# Altium integrated library AMCC PowerPC 440.IntLib: 120 symbols (part 30 of 33)
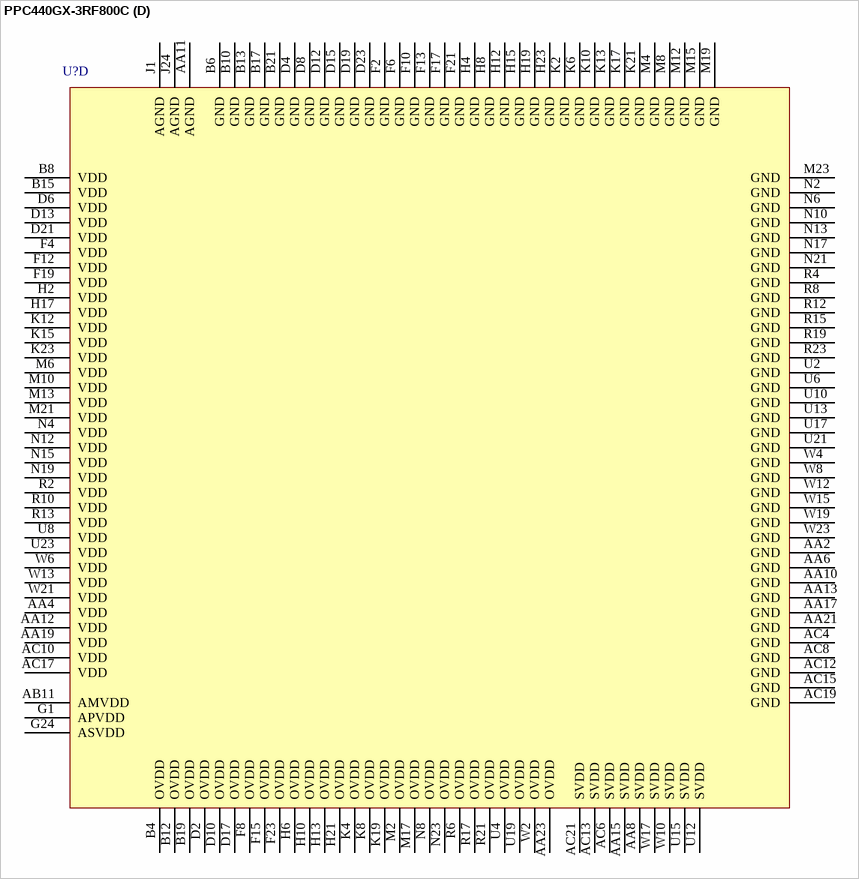
[diagram p428: symbol PPC440GX-3RF800C]

## PPC440GX-3RF800C
designator U?
PowerPC 440GX Embedded Processor, 800MHz, 25mm, 552 Ball CBGA, Reduced Pb, rev F; Note: Pin names with asterisk have Ethernet interface multifunctions. See description field for those functions.; Published: 6-Oct-2005; LatestRevisionDate: 13-Apr-2006; LatestRevisionNote: IPC-7351 Footprint Added.; DatasheetVersion: rev1.10, Apr-2006; PackageVersion: Apr-2006; PackageReference: CBGA552R_37; Publisher: Altium Limited; PackageDescription: 552-Ball Ceramic Ball Grid Array - Reduced Lead; ComponentLink1Description: Manufacturer Link; ComponentLink1URL: http://www.amcc.com/; ComponentLink2Description: Datasheet; ComponentLink2URL: https://www.amcc.com/MyAMCC/retrieveDocument/PowerPC/440GX/PPC440GX_DS2001_v1_10.pdf
footprint CBGA552R_37 (BGA, 552-Leads, Body 25x25mm, Pitch 1mm)
3D model PPC440GX-CBGA552R (552-Ball Ceramic Ball Grid Array - Reduced Lead)
part A pins: A5 DrvrInh2 (in), AA1 MemData48 (io), AA3 MemData49 (io), AA5 DQS8 (io), AA7 DM5 (out), AA9 DM4 (out), AA14 MemData16 (io), AA16 BA0 (out), AA18 DM1 (out), AA20 MemData03 (io), AB2 MemData50 (io), AB3 MemData52 (io), AB4 ECC6 (io), AB5 ~{CAS} (out), AB6 ECC1 (io), AB7 ECC0 (io), AB8 MemData40 (io), AB9 MemData45 (io), AB10 ClkEn1 (out), AB12 MemData29 (io), AB13 DQS3 (io), AB14 DM2 (out), AB15 ~{BankSel0} (out), AB16 MemData11 (io), AB17 MemData15 (io), AB18 MemAddr06 (out), AB19 MemData07 (io), AB20 MemAddr03 (out), AB21 MemData01 (io), AB22 TMS (in), AC3 ECC5 (io), AC5 DM8 (out), AC7 MemData44 (io), AC9 DQS5 (io), AC11 DQS4 (io), AC14 DQS2 (io), AC16 DQS1 (io), AC18 MemData12 (io), AC20 DQS0 (io), AC22 MemData02 (io), AD4 ECC7 (io), AD5 ~{BankSel3} (out), AD6 ECC2 (io), AD7 ~{RA}S (out), AD8 MemData41 (io), AD9 BA1 (out), AD10 MemData39 (io), AD11 ~{BankSel2} (out), AD12 MemData33 (io), AD13 MemData24 (io), AD14 MemData25 (io), AD15 MemData17 (io), AD16 MemAddr05 (out), AD17 ClkEn0 (out), AD18 MemAddr04 (out), AD19 MemData06 (io), AD20 MemAddr01 (out), AD21 MemData00 (io), G22 SysClk (in), L2 RefVEn (in), L18 IRQ03[GPIO03] (io), L20 IRQ01[GPIO01] (io), M5 TestEn (in), M14 IRQ06[GPIO06] (io), M20 IRQ05[GPIO05] (io), N14 IRQ04[GPIO04] (io), N18 IRQ00[GPIO00] (io), N20 IRQ08[GPIO08] (io), N24 ~{TRS}T (in), P10 ~{SysRese}t (io), P12 MemData28 (io), P13 DM3 (out), P18 IRQ07[GPIO07] (io), P20 IRQ02[GPIO02] (io), P22 IRQ09[GPIO09] (io), R11 MemData42 (io), R14 MemData14 (io), T1 DQS7 (io), T2 SysErr (out), T7 MemData61 (io), T8 MemData56 (io), T9 MemVRef2 (in), T10 MemData38 (io), T11 MemData37 (io), T12 MemData35 (io), T13 MemData22 (io), T14 MemVRef1 (in), T15 MemData18 (io), T16 DM0 (out), U1 TmrClk (in), U5 MemData63 (io), U7 MemData57 (io), U9 ECC4 (io), U11 MemData36 (io), U14 MemData21 (io), U16 MemData04 (io), V1 MemData55 (io), V3 DM7 (out), V5 ~{Halt} (in), V6 MemData60 (io), V7 MemData54 (io), V8 ~{MemClkOut}0 (out), V9 MemClkOut0 (out), V10 MemAddr12 (out), V11 MemAddr09 (out), V12 MemData31 (io), V13 MemAddr08 (out), V14 MemData26 (io), V15 MemData19 (io), V16 MemData09 (io), V17 MemData05 (io), V18 IRQ10[GPIO10] (io), V22 TCK (in), W1 MemData58 (io), W3 MemData59 (io), W5 MemData62 (io), W7 ECC3 (io), W9 ClkEn3 (out), W11 MemData32 (io), W14 B~{ankSel1} (out), W16 MemAddr10 (out), W18 MemData08 (io), Y1 MemData51 (io), Y2 MemData53 (io), Y3 DM6 (out), Y4 DQS6 (io), Y6 MemData46 (io), Y7 MemData43 (io), Y8 MemData47 (io), Y9 ClkEn2 (out), Y10 MemData34 (io), Y11 MemAddr11 (out), Y12 MemData30 (io), Y13 MemData27 (io), Y14 MemAddr07 (out), Y15 MemData23 (io), Y16 MemData20 (io), Y17 MemData10 (io), Y18 MemData13 (io), Y19 MemAddr00 (out), Y20 MemAddr02 (out), Y22 TDO (out), Y24 TDI (in)
part B pins: A4 PCIXAD51 (io), A6 PCIXAD58 (io), A7 EMCRxD2* (io) "EMC1RxD0,EMC2RxD,GMCTxD0,GMC0TxD0,TBITxD0,RTBI0TxD0", A8 PCIXAD42 (io), A10 PCIXAD05 (io), A11 ~{PCIXFrame} (io), A14 PCIXM66En (in), A15 PCIXAD09 (io), A17 ~{PCIXPEr}r (io), A18 ~{PCIXSEr}r (io), A20 PCIXAD21 (io), A21 PCIXAD22 (io), B3 PCIXAD46 (io), B5 PCIXAD54 (io), B7 PCIXAD62 (io), B9 PCIXAD01 (io), B16 PCIXAD13 (io), B22 PCIXAD25 (io), C2 PCIXAD41 (io), C3 PCIXC5[~{BE5}] (io), C4 PCIXAD50 (io), C5 EMCTxErr* (io) "EMC1TxEn,GMCRxClk,GMC0RxClk,TBIRxClk0,RTBI0RxClk", C6 PCIXAD57 (io), C8 PCIXC4[~{BE4}] (io), C9 PCIXAD55 (io), C10 PCIXAD04 (io), C12 ~{PCIXTRD}Y (io), C15 PCIXAD10 (io), C16 PCIXAD14 (io), C17 PCIXAD00 (io), C19 PCIXC2[~{BE2}] (io), C21 PCIXAD23 (io), C22 ~{PCIXGnt1}[IRQ12] (io), C23 PCIXAD28 (io), D1 PCIXAD36 (io), D3 PCIXAD45 (io), D5 PCIXAD53 (io), D7 PCIXAD61 (io), D9 ~{PCIXAck64} (io), D16 PCIXAD15 (io), D20 PCIXAD20 (io), D22 PCIXAD30 (io), D24 PCIXAD31 (io), E1 EMCRxD1* (io) "EMC0RxD1,EMC1RxD", E2 PCIXAD40 (io), E3 PCIXClk (in), E4 PCIXAD49 (io), E6 PCIXAD56 (io), E7 PCIXAD60 (io), E8 PCIXAD63 (io), E9 ~{PCIXReq6}4 (io), E10 PCIXAD03 (io), E12 ~{PCIXIRD}Y (io), E13 ~{PCIXDevSel} (io), E15 PCIXAD11 (io), E16 PCIXC1[~{BE1}] (io), E18 PCIXAD16 (io), E19 PCIXAD17 (io), E20 ~{PCIXReq}2 (in), E21 ~{PCIXReq1}[IRQ11] (in), E22 ~{PCIXGnt0} (io), E23 PCIXAD27 (io), E24 ~{PCIXReq}0 (io), F1 PCIXAD35 (io), F3 PCIXAD44 (io), F5 PCIXAD52 (io), F7 PCIXAD59 (io), F9 PCIXC7[~{BE7}] (io), F11 PCIXAD06 (io), F14 PCIXC0[~{BE0}] (io), F16 PCIXParLow (io), F18 PCIXAD18 (io), F20 PCIXC3[~{BE3}] (io), F22 PCIXAD24 (io), F24 PCIXAD29 (io), G2 PCIXAD39 (io), G3 EMCRxD0* (io) "EMC0RxD0,EMC0RxD", G4 PCIXAD48 (io), G5 PCIXAD43 (io), G7 PCIXIDSel (in), G8 PCIX133Cap (out), G9 PCIXC6[~{BE6}] (io), G10 PCIXAD02 (io), G12 PCIXAD07 (io), G14 PCIXAD08 (io), G15 PCIXAD12 (io), G18 PCIXAD19 (io), G21 PCIXAD26 (io), G23 ~{PCIXReq}4 (in), H1 PCIXAD33 (io), H3 PCIXAD32 (io), H5 PCIXAD38 (io), H7 PCIXAD47 (io), H9 EMCRxD3* (io) "EMC1RxD1,EMC3RxDGMCTxD1,GMC0TxD1,TBITxD1,RTBI0TxD1", J2 EMCRxClk* (io) "GMCTxD5,GMC1TxD1,TBITxD5,RTBI1TxD1", J3 EMCTxD3* (out) "EMC1TxD1,EMC3TxD,GMCTxD3,GMC0TxD3,TBITxD3,RTBI0TxD3", J4 EMCTxD2* (out) "EMC1TxD0,EMC2TxD,GMCTxD2,GMC0TxD2,TBITxD2,RTBI0TxD2", J5 PCIXAD37 (io), J6 EMCTxClk* (in) "EMCRefClk", J7 EMCCD* (io) "EMC1RxErr,GMCGTxClk,GMC0TxClk,TBITxClk,RTBI0TxClk", J8 EMCMDClk (out), K1 EMCRxDV* (io) "EMC1CrSDV,GMCTxD4,GMC1TxD0,TBITxD4,RTBI1TxD0", K3 EMCRxErr* (io) "EMC0RxErr,GMCTxD6,GMC1TxD2,TBITxD6,RTBI1TxD2", K5 EMCTxD1* (out) "EMC0TxD1,EMC1TxD", K7 EMCCrS (io), L1 GMCRefClk (in), L4 PCIXParHigh (io), L5 EMCMDIO (io), L6 EMCTxEn* (io) "EMC0TxEn,EMCSync", L7 GMCTxEr* (out) "GMC1TxCtl,TBITxD9,RTBI1TxD4", L8 PCIXAD34 (io), L9 EMCTxD0* (out) "EMC0TxD0,EMC0TxD", L12 ~{PCIXSto}p (io), L23 PCIXCap (in), M7 ~{PCIXIN}T (out), M18 ~{PCIXGnt}3 (out), M24 ~{PCIXRese}t (out), N9 TrcES2[GPIO23] (io), N16 TrcBS0[GPIO18][IRQ13] (io), N22 ~{PCIXGnt}2 (out), P3 TrcTS1[GPIO27]* (io) "[GMCCD,GMC1RxClk,RTBI1RxClk]", P4 GMCRxEr* (in) "GMC1RxCtl,TBIRxD9,RTBI1RxD4", P8 TrcES3[GPIO24] (io), P9 TrcTS3[GPIO29]* (io) "[GMCRxD5,GMC1RxD1,TBIRxD5,RTBI1RxD1]", P14 GPIO11* (io) "[GMCTxClk,TBIRxClk1]", P17 TrcBS1[GPIO19][IRQ14] (io), P19 ~{PCIXGnt}5 (out), P21 TrcTS6[PerErr] (io), P23 TrcES1[GPIO22][IRQ17] (io), R1 TrcTS6* (io) "[GMCCrS,GMC1TxClk,RTBI1TxClk]", R5 TrcClk (out), R7 TrcTS2[GPIO28]* (io) "[GMCRxD4,GMC1RxD0,TBIRxD4,RTBI1RxD0]", R9 TrcTS4[GPIO30]* (io) "[GMCRxD6,GMC1RxD2,TBIRxD6,RTBI1RxD2]", R18 ~{PCIXReq}5 (in), R20 ~{PCIXReq}3 (in), R22 ~{PCIXGnt}4 (out), T4 TrcTS0[GPIO26] (io), T5 TrcES4[GPIO25] (io), T6 TrcTS5[GPIO31]* (io) "[GMCRxD7,GMC1RxD3,TBIRxD7,RTBI1RxD3]", T20 TrcBS2[GPIO20][IRQ15] (io), T21 TrcES0[GPIO21][IRQ16] (io)
part C pins: A9 UARTSerClk (in), A12 PerAddr03 (io), A13 PerAddr12 (io), A16 PerAddr11 (io), A19 PerAddr04 (io), AA22 ~{ExtAck}[TrcTS2] (io), AA24 BusReq[TrcTS1] (io), AB23 ~{ExtReq}[TrcTS3] (io), B11 PerAddr02 (io), B14 PerAddr13 (io), B18 ~{UART0_DT}R (out), B20 PerAddr16 (io), C7 ~{PerBLas}t (io), C11 PerAddr01 (io), C13 ~{UART0_CT}S (in), C14 PerAddr14 (io), C18 UART1_Rx[GPIO12] (io), C20 PerAddr10 (io), D11 PerAddr00 (io), D14 PerAddr15 (io), D18 PerAddr05 (io), E5 ~{UART1_RT}S/~{DT}R[GPIO15] (io), E11 PerAddr06 (io), E14 PerAddr09 (io), E17 ~{PerCS}0 (out), G6 ~{UART1_DS}R/~{CTS}[GPIO14] (io), G11 IIC0SClk (io), G13 IIC0SDA (io), G16 ~{UART0_RT}S (out), G17 UART0_Rx (in), G19 PerData04 (io), G20 PerData03 (io), H11 IIC1SClk[GPIO16] (io), H14 IIC1SDA[GPIO17] (io), H16 ~{UART0_R}I (in), H18 PerData05 (io), H20 PerData02 (io), H22 PerData01 (io), H24 PerData00 (io), J9 PerData19 (io), J10 PerData18 (io), J11 PerData17 (io), J12 PerData16 (io), J13 PerData15 (io), J14 PerData14 (io), J15 PerData13 (io), J16 UART1_Tx[GPIO13] (io), J17 PerData12 (io), J18 PerData11 (io), J19 PerData10 (io), J20 PerData09 (io), J21 PerData08 (io), J22 PerData07 (io), J23 PerData06 (io), K9 PerData28 (io), K11 PerData27 (io), K14 PerData26 (io), K16 PerData25 (io), K18 PerData24 (io), K20 PerData23 (io), K22 PerData22 (io), K24 PerData21 (io), L3 ~{PerCS}4 (out), L10 ~{PerCS}1 (out), L11 UART0_Tx (out), L13 ~{PerCS}6 (out), L14 PerData20 (io), L15 PerAddr17 (io), L16 PerData31 (io), L17 PerData30 (io), L19 PerData29 (io), L21 PerAddr18 (io), L22 PerAddr19 (io), L24 PerAddr22 (io), M1 PerAddr21 (io), M3 PerAddr07 (io), M9 PerOE (out), M11 DMAReq1 (in), M16 EOT3/TC3* (io) "[GMCRxD3,GMC0RxD3,TBIRxD3,RTBI0RxD3]", M22 PerAddr20 (io), N1 PerAddr08 (io), N3 PerAddr28 (io), N5 DMAAck0 (out), N7 PerReady[RcvrInh] (in), N11 DMAReq2* (in) "[GMCRxDV,GMC0RxCtl,TBIRxD8,RTBI0RxD4]", P1 DMAReq3* (in) "[GMCTxEn,GMC0TxCtl,TBITxD8,RTBI0TxD4]", P2 ~{PerW}E (out), P5 PerR/~{W} (io), P6 DMAAck2* (out) "[GMCRxD0,GMC0RxD0,TBIRxD0,RTBI0RxD0]", P7 DMAAck1 (out), P11 DMAAck3* (out) "[GMCRxD1,GMC0RxD1,TBIRxD1,RTBI0RxD1]", P15 EOT1/TC1 (io), P16 EOT2/TC2* (io) "[GMCRxD2,GMC0RxD2,TBIRxD2,RTBI0RxD2]", P24 PerAddr23 (io), R3 DMAReq0 (in), R16 EOT0/TC0 (io), R24 PerAddr25 (io), T3 ~{PerCS}5 (out), T17 ~{ExtReset} (out), T18 ~{PerWBE}0 (io), T19 PerAddr24 (io), T22 PerPar1 (io), T23 PerPar0 (io), T24 ~{PerCS}3 (out), U3 ~{PerCS}7 (out), U18 PerClk (out), U20 PerPar3 (io), U22 PerAddr26 (io), U24 PerAddr27 (io), V2 ~{UART0_DS}R (in), V4 ~{PerCS}2 (out), V19 ~{PerWBE}1 (io), V20 PerAddr29 (io), V21 PerAddr31 (io), V23 PerAddr30 (io), V24 ~{UART0_DC}D (in), W20 PerPar2 (io), W22 ~{PerWBE}2 (io), W24 ~{PerWBE}3 (io), Y5 ~{WE} (out), Y21 HoldAck[TrcTS4] (io), Y23 HoldReq[TrcTS5] (io)
part D pins: AA2 GND (power), AA4 VDD (power), AA6 GND (power), AA8 SVDD (power), AA10 GND (power), AA11 AGND (power), AA12 VDD (power), AA13 GND (power), AA15 SVDD (power), AA17 GND (power), AA19 VDD (power), AA21 GND (power), AA23 OVDD (power), AB11 AMVDD (power), AC4 GND (power), AC6 SVDD (power), AC8 GND (power), AC10 VDD (power), AC12 GND (power), AC13 SVDD (power), AC15 GND (power), AC17 VDD (power), AC19 GND (power), AC21 SVDD (power), B4 OVDD (power), B6 GND (power), B8 VDD (power), B10 GND (power), B12 OVDD (power), B13 GND (power), B15 VDD (power), B17 GND (power), B19 OVDD (power), B21 GND (power), D2 OVDD (power), D4 GND (power), D6 VDD (power), D8 GND (power), D10 OVDD (power), D12 GND (power), D13 VDD (power), D15 GND (power), D17 OVDD (power), D19 GND (power), D21 VDD (power), D23 GND (power), F2 GND (power), F4 VDD (power), F6 GND (power), F8 OVDD (power), F10 GND (power), F12 VDD (power), F13 GND (power), F15 OVDD (power), F17 GND (power), F19 VDD (power), F21 GND (power), F23 OVDD (power), G1 APVDD (power), G24 ASVDD (power), H2 VDD (power), H4 GND (power), H6 OVDD (power), H8 GND (power), H10 OVDD (power), H12 GND (power), H13 OVDD (power), H15 GND (power), H17 VDD (power), H19 GND (power), H21 OVDD (power), H23 GND (power), J1 AGND (power), J24 AGND (power), K2 GND (power), K4 OVDD (power), K6 GND (power), K8 OVDD (power), K10 GND (power), K12 VDD (power), K13 GND (power), K15 VDD (power), K17 GND (power), K19 OVDD (power), K21 GND (power), K23 VDD (power), M2 OVDD (power), M4 GND (power), M6 VDD (power), M8 GND (power), M10 VDD (power), M12 GND (power), M13 VDD (power), M15 GND (power), M17 OVDD (power), M19 GND (power), M21 VDD (power), M23 GND (power), N2 GND (power), N4 VDD (power), N6 GND (power), N8 OVDD (power), N10 GND (power), N12 VDD (power), N13 GND (power), N15 VDD (power), N17 GND (power), N19 VDD (power), N21 GND (power), N23 OVDD (power), R2 VDD (power), R4 GND (power), R6 OVDD (power), R8 GND (power), R10 VDD (power), R12 GND (power), R13 VDD (power), R15 GND (power), R17 OVDD (power), R19 GND (power), R21 OVDD (power), R23 GND (power), U2 GND (power), U4 OVDD (power), U6 GND (power), U8 VDD (power), U10 GND (power), U12 SVDD (power), U13 GND (power), U15 SVDD (power), U17 GND (power), U19 OVDD (power), U21 GND (power), U23 VDD (power), W2 OVDD (power), W4 GND (power), W6 VDD (power), W8 GND (power), W10 SVDD (power), W12 GND (power), W13 VDD (power), W15 GND (power), W17 SVDD (power), W19 GND (power), W21 VDD (power), W23 GND (power)

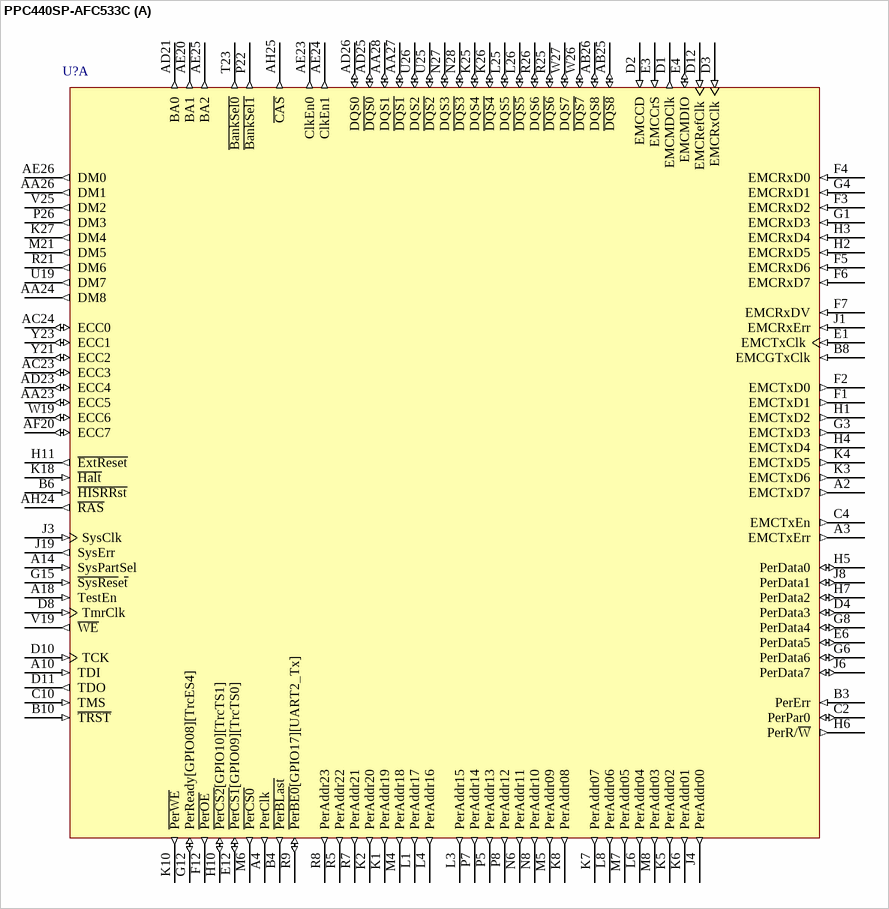
[diagram p364: symbol PPC440SP-AFC533C]

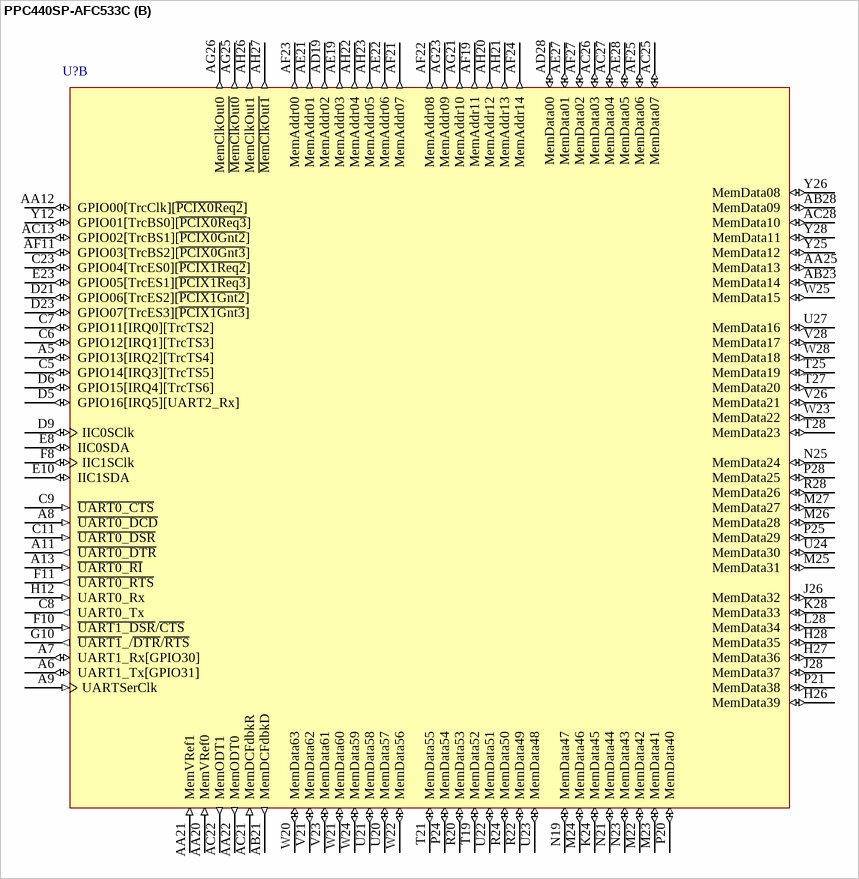
[diagram p365: symbol PPC440SP-AFC533C]

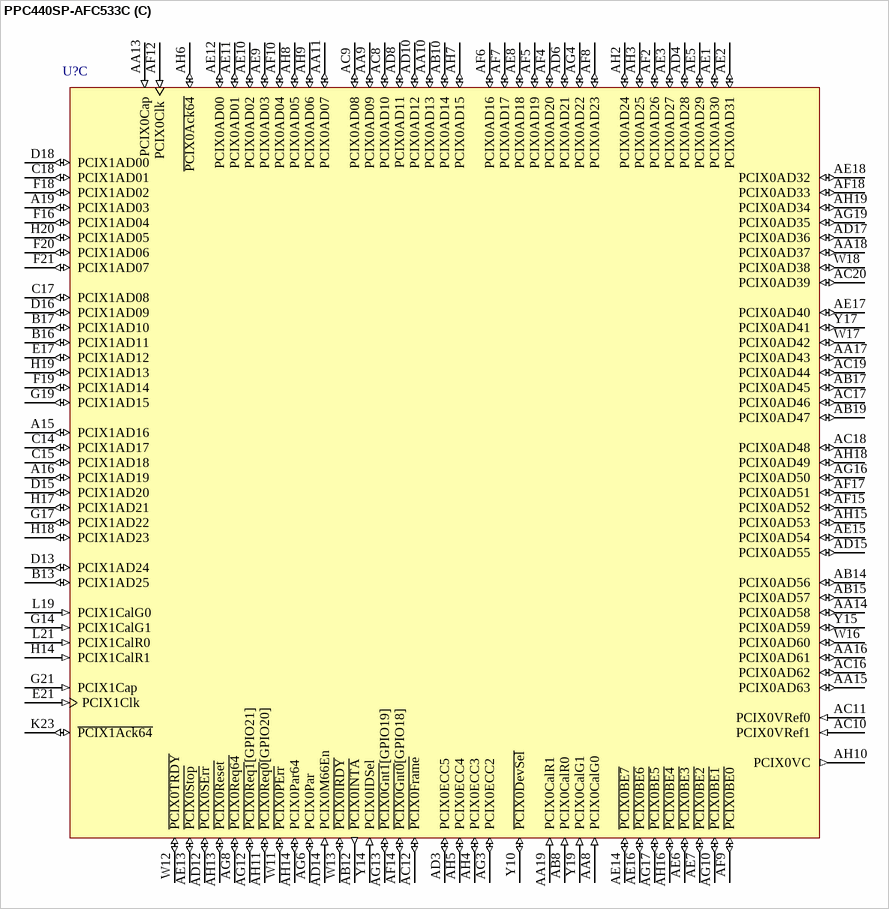
[diagram p366: symbol PPC440SP-AFC533C]

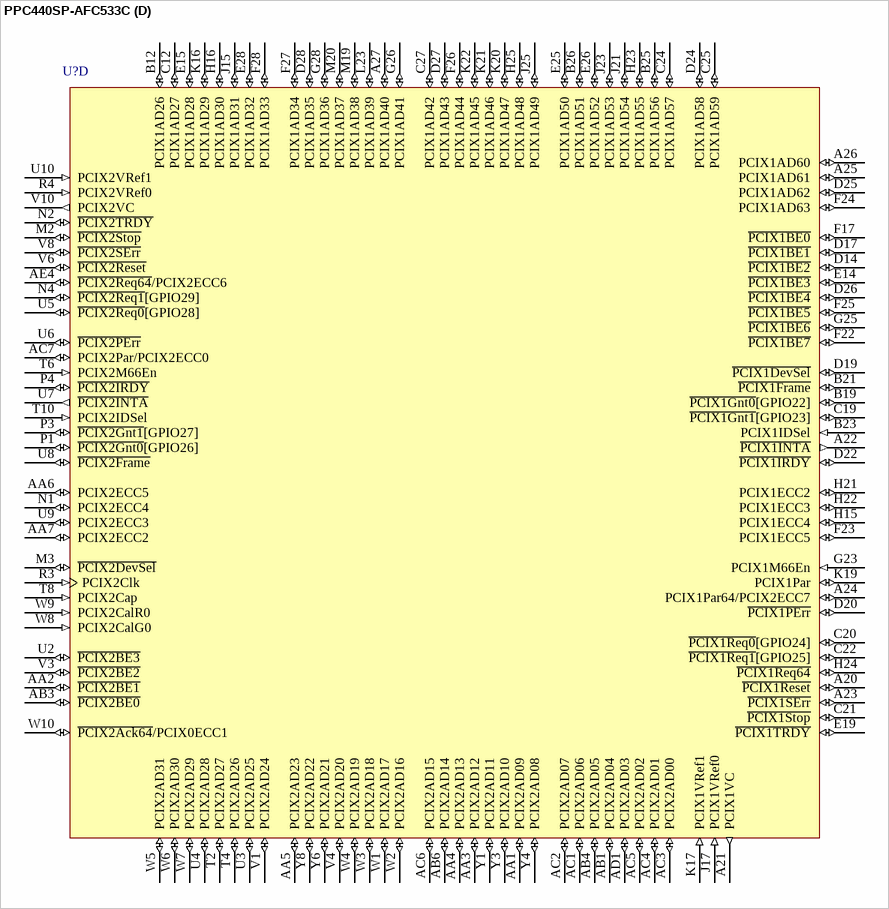
[diagram p367: symbol PPC440SP-AFC533C]

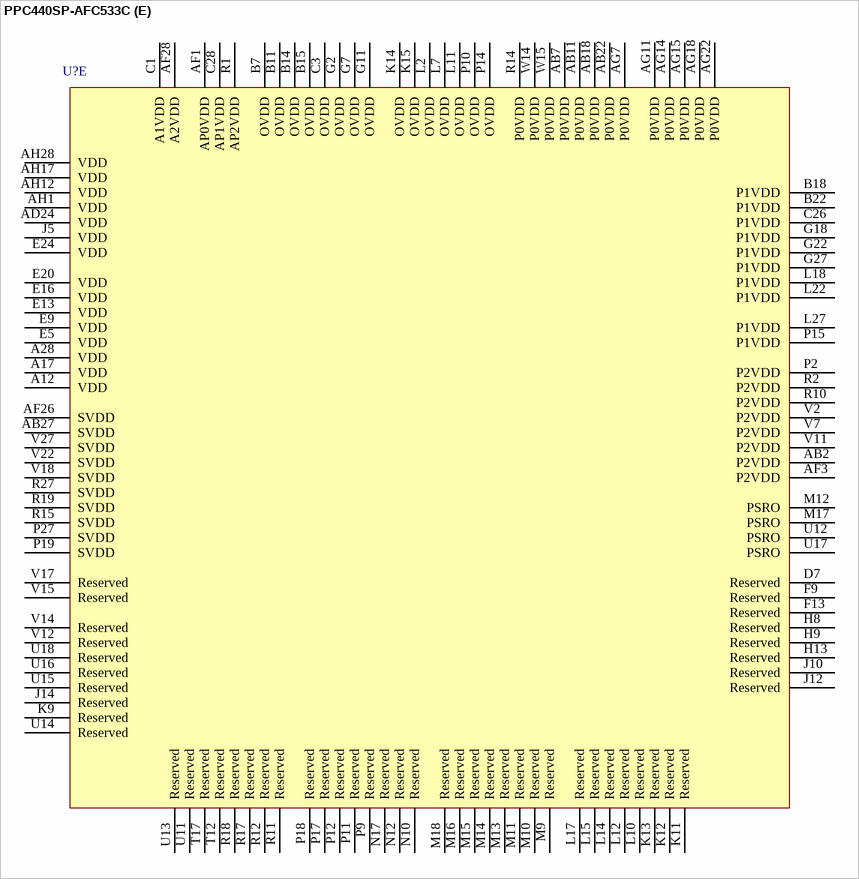
[diagram p368: symbol PPC440SP-AFC533C]

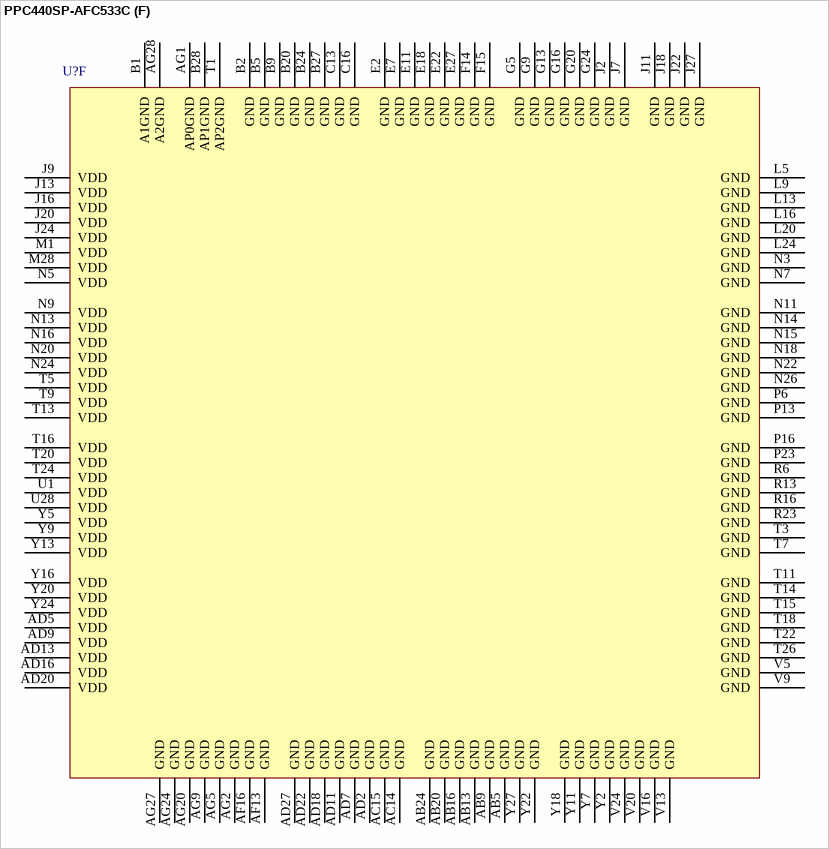
[diagram p369: symbol PPC440SP-AFC533C]

## PPC440SP-AFC533C
designator U?
PowerPC 440SP Embedded Processor, 533MHz, 29mm, 783 Ball FC-PBGA, rev C; Published: 2-Mar-2006; LatestRevisionDate: 13-Apr-2006; LatestRevisionNote: IPC-7351 Footprint Added.; DatasheetVersion: rev1.18, May-2006; PackageVersion: Nov-2005; PackageReference: FC-PBGA783; Publisher: Altium Limited; PackageDescription: 783-Ball Flip Chip Plastic Ball Grid Array; ComponentLink1Description: Manufacturer Link; ComponentLink1URL: http://www.amcc.com/; ComponentLink2Description: Datasheet; ComponentLink2URL: https://www.amcc.com/MyAMCC/retrieveDocument/PowerPC/440SP/PPC440SP_DS2013_v1_18.pdf
footprint FC-PBGA783 (BGA, 783-Leads, Body 29x29mm, Pitch 1mm)
3D model PPC440SP-FC-PBGA783 (783-Ball Flip Chip Plastic Ball Grid Array)
part A pins: A2 EMCTxD7 (out), A3 EMCTxErr (out), A4 PerClk (out), A10 TDI (in), A14 SysPartSel (in), A18 TestEn (in), AA23 ECC5 (io), AA24 DM8 (out), AA26 DM1 (out), AA27 ~{DQS1} (io), AA28 DQS1 (io), AB25 ~{DQS8} (io), AB26 DQS8 (io), AC23 ECC3 (io), AC24 ECC0 (io), AD21 BA0 (out), AD23 ECC4 (io), AD25 ~{DQS0} (io), AD26 DQS0 (io), AE20 BA1 (out), AE23 ClkEn0 (out), AE24 ClkEn1 (out), AE25 BA2 (out), AE26 DM0 (out), AF20 ECC7 (io), AH24 ~{RAS} (out), AH25 ~{CAS} (out), B3 PerErr (in), B4 ~{PerBLast} (out), B6 ~{HISRRst} (in), B8 EMCGTxClk (in), B10 ~{TRST} (in), C2 PerPar0 (io), C4 EMCTxEn (out), C10 TMS (in), D1 EMCMDClk (out), D2 EMCCD (in), D3 EMCRxClk (in), D4 PerData3 (io), D8 TmrClk (in), D10 TCK (in), D11 TDO (out), D12 EMCRefClk (in), E1 EMCTxClk (in), E3 EMCCrS (in), E4 EMCMDIO (io), E6 PerData5 (io), E12 ~{PerCS1}[GPIO09][TrcTS0] (io), F1 EMCTxD1 (out), F2 EMCTxD0 (out), F3 EMCRxD2 (in), F4 EMCRxD0 (in), F5 EMCRxD6 (in), F6 EMCRxD7 (in), F7 EMCRxDV (in), F12 ~{PerOE} (out), G1 EMCRxD3 (in), G3 EMCTxD3 (out), G4 EMCRxD1 (in), G6 PerData6 (io), G8 PerData4 (io), G12 PerReady[GPIO08][TrcES4] (io), G15 ~{SysRes}e~{t} (in), H1 EMCTxD2 (out), H2 EMCRxD5 (in), H3 EMCRxD4 (in), H4 EMCTxD4 (out), H5 PerData0 (io), H6 PerR/~{W} (out), H7 PerData2 (io), H10 ~{PerCS2}[GPIO10][TrcTS1] (io), H11 ~{ExtReset} (out), J1 EMCRxErr (in), J3 SysClk (in), J4 PerAddr00 (out), J6 PerData7 (io), J8 PerData1 (io), J19 SysErr (out), K1 PerAddr19 (out), K2 PerAddr20 (out), K3 EMCTxD6 (out), K4 EMCTxD5 (out), K5 PerAddr02 (out), K6 PerAddr01 (out), K7 PerAddr07 (out), K8 PerAddr08 (out), K10 ~{PerWE} (out), K18 ~{Halt} (in), K25 DQS4 (io), K26 ~{DQS4} (io), K27 DM4 (out), L1 PerAddr17 (out), L3 PerAddr15 (out), L4 PerAddr16 (out), L6 PerAddr04 (out), L8 PerAddr06 (out), L25 DQS5 (io), L26 ~{DQS5} (io), M4 PerAddr18 (out), M5 PerAddr09 (out), M6 ~{PerCS0} (out), M7 PerAddr05 (out), M8 PerAddr03 (out), M21 DM5 (out), N6 PerAddr11 (out), N8 PerAddr10 (out), N27 DQS3 (io), N28 ~{DQS3} (io), P5 PerAddr13 (out), P7 PerAddr14 (out), P8 PerAddr12 (out), P22 ~{BankSel1} (out), P26 DM3 (out), R5 PerAddr22 (out), R7 PerAddr21 (out), R8 PerAddr23 (out), R9 ~{PerBE0}[GPIO17][UART2_Tx] (io), R21 DM6 (out), R25 ~{DQS6} (io), R26 DQS6 (io), T23 ~{BankSel0} (out), U19 DM7 (out), U25 ~{DQS2} (io), U26 DQS2 (io), V19 ~{WE} (out), V25 DM2 (out), W19 ECC6 (io), W26 ~{DQS7} (io), W27 DQS7 (io), Y21 ECC2 (io), Y23 ECC1 (io)
part B pins: A5 GPIO13[IRQ2][TrcTS4] (io), A6 UART1_Tx[GPIO31] (io), A7 UART1_Rx[GPIO30] (io), A8 ~{UART0_DCD} (in), A9 UARTSerClk (in), A11 ~{UART0_DTR} (out), A13 ~{UART0_RI} (in), AA12 GPIO00[TrcClk][~{PCIX0Req2}] (io), AA20 MemVRef0 (in), AA21 MemVRef1 (in), AA22 MemODT0 (out), AA25 MemData13 (io), AB21 MemDCFdbkD (out), AB23 MemData14 (io), AB28 MemData09 (io), AC13 GPIO02[TrcBS1][~{PCIX0Gnt2}] (io), AC21 MemDCFdbkR (in), AC22 MemODT1 (out), AC25 MemData07 (io), AC26 MemData03 (io), AC27 MemData04 (io), AC28 MemData10 (io), AD19 MemAddr02 (out), AD28 MemData00 (io), AE19 MemAddr03 (out), AE21 MemAddr01 (out), AE22 MemAddr06 (out), AE27 MemData01 (io), AE28 MemData05 (io), AF11 GPIO03[TrcBS2][~{PCIX0Gnt3}] (io), AF19 MemAddr11 (out), AF21 MemAddr07 (out), AF22 MemAddr08 (out), AF23 MemAddr00 (out), AF24 MemAddr14 (out), AF25 MemData06 (io), AF27 MemData02 (io), AG21 MemAddr10 (out), AG23 MemAddr09 (out), AG25 ~{MemClkOut0} (out), AG26 MemClkOut0 (out), AH20 MemAddr12 (out), AH21 MemAddr13 (out), AH22 MemAddr04 (out), AH23 MemAddr05 (out), AH26 MemClkOut1 (out), AH27 ~{MemClkOut1} (out), C5 GPIO14[IRQ3][TrcTS5] (io), C6 GPIO12[IRQ1][TrcTS3] (io), C7 GPIO11[IRQ0][TrcTS2] (io), C8 UART0_Tx (out), C9 ~{UART0_CTS} (in), C11 ~{UART0_DSR} (in), C23 GPIO04[TrcES0][~{PCIX1Req2}] (io), D5 GPIO16[IRQ5][UART2_Rx] (io), D6 GPIO15[IRQ4][TrcTS6] (io), D9 IIC0SClk (io), D21 GPIO06[TrcES2][~{PCIX1Gnt2}] (io), D23 GPIO07[TrcES3][~{PCIX1Gnt3}] (io), E8 IIC0SDA (io), E10 IIC1SDA (io), E23 GPIO05[TrcES1][~{PCIX1Req3}] (io), F8 IIC1SClk (io), F10 ~{UART1_DSR}/~{CTS} (in), F11 ~{UART0_RTS} (out), G10 ~{UART1}_/~{DTR}/~{RTS} (out), H12 UART0_Rx (in), H26 MemData39 (io), H27 MemData36 (io), H28 MemData35 (io), J26 MemData32 (io), J28 MemData37 (io), K24 MemData45 (io), K28 MemData33 (io), L28 MemData34 (io), M22 MemData42 (io), M23 MemData41 (io), M24 MemData46 (io), M25 MemData31 (io), M26 MemData28 (io), M27 MemData27 (io), N19 MemData47 (io), N21 MemData44 (io), N23 MemData43 (io), N25 MemData24 (io), P20 MemData40 (io), P21 MemData38 (io), P24 MemData54 (io), P25 MemData29 (io), P28 MemData25 (io), R20 MemData53 (io), R22 MemData49 (io), R24 MemData50 (io), R28 MemData26 (io), T19 MemData52 (io), T21 MemData55 (io), T25 MemData19 (io), T27 MemData20 (io), T28 MemData23 (io), U20 MemData57 (io), U21 MemData58 (io), U22 MemData51 (io), U23 MemData48 (io), U24 MemData30 (io), U27 MemData16 (io), V21 MemData62 (io), V23 MemData61 (io), V26 MemData21 (io), V28 MemData17 (io), W20 MemData63 (io), W21 MemData60 (io), W22 MemData56 (io), W23 MemData22 (io), W24 MemData59 (io), W25 MemData15 (io), W28 MemData18 (io), Y12 GPIO01[TrcBS0][~{PCIX0Req3}] (io), Y25 MemData12 (io), Y26 MemData08 (io), Y28 MemData11 (io)
part C pins: A15 PCIX1AD16 (io), A16 PCIX1AD19 (io), A19 PCIX1AD03 (io), AA8 PCIX0CalG0 (in), AA9 PCIX0AD09 (io), AA10 PCIX0AD13 (io), AA11 PCIX0AD07 (io), AA13 PCIX0Cap (in), AA14 PCIX0AD58 (io), AA15 PCIX0AD63 (io), AA16 PCIX0AD61 (io), AA17 PCIX0AD43 (io), AA18 PCIX0AD37 (io), AA19 PCIX0CalR1 (in), AB8 PCIX0CalR0 (in), AB10 PCIX0AD14 (io), AB12 ~{PCIX0INTA} (out), AB14 PCIX0AD56 (io), AB15 PCIX0AD57 (io), AB17 PCIX0AD45 (io), AB19 PCIX0AD47 (io), AC8 PCIX0AD10 (io), AC9 PCIX0AD08 (io), AC10 PCIX0VRef1 (in), AC11 PCIX0VRef0 (in), AC12 ~{PCIX0Frame} (io), AC16 PCIX0AD62 (io), AC17 PCIX0AD46 (io), AC18 PCIX0AD48 (io), AC19 PCIX0AD44 (io), AC20 PCIX0AD39 (io), AD3 PCIX0ECC5 (io), AD4 PCIX0AD28 (io), AD6 PCIX0AD21 (io), AD8 PCIX0AD11 (io), AD10 PCIX0AD12 (io), AD12 ~{PCIX0SErr} (io), AD14 PCIX0M66En (in), AD15 PCIX0AD55 (io), AD17 PCIX0AD36 (io), AE1 PCIX0AD30 (io), AE2 PCIX0AD31 (io), AE3 PCIX0AD27 (io), AE5 PCIX0AD29 (io), AE6 ~{PCIX0BE3} (io), AE7 ~{PCIX0BE2} (io), AE8 PCIX0AD18 (io), AE9 PCIX0AD03 (io), AE10 PCIX0AD02 (io), AE11 PCIX0AD01 (io), AE12 PCIX0AD00 (io), AE13 ~{PCIX0Stop} (io), AE14 ~{PCIX0BE7} (io), AE15 PCIX0AD54 (io), AE16 ~{PCIX0BE6} (io), AE17 PCIX0AD40 (io), AE18 PCIX0AD32 (io), AF2 PCIX0AD26 (io), AF4 PCIX0AD20 (io), AF5 PCIX0AD19 (io), AF6 PCIX0AD16 (io), AF7 PCIX0AD17 (io), AF8 PCIX0AD23 (io), AF9 ~{PCIX0BE0} (io), AF10 PCIX0AD04 (io), AF12 PCIX0Clk (in), AF14 ~{PCIX0Gnt0}[GPIO18] (io), AF15 PCIX0AD52 (io), AF17 PCIX0AD51 (io), AF18 PCIX0AD33 (io), AG3 PCIX0ECC2 (io), AG4 PCIX0AD22 (io), AG6 PCIX0Par (io), AG8 ~{PCIX0Req64} (io), AG10 ~{PCIX0BE1} (io), AG12 ~{PCIX0Req1}[GPIO21] (io), AG13 ~{PCIX0Gnt1}[GPIO19] (io), AG16 PCIX0AD50 (io), AG17 ~{PCIX0BE5} (io), AG19 PCIX0AD35 (io), AH2 PCIX0AD24 (io), AH3 PCIX0AD25 (io), AH4 PCIX0ECC3 (io), AH5 PCIX0ECC4 (io), AH6 ~{PCIX0Ack64} (io), AH7 PCIX0AD15 (io), AH8 PCIX0AD05 (io), AH9 PCIX0AD06 (io), AH10 PCIX0VC (out), AH11 ~{PCIX0Req0}[GPIO20] (io), AH13 ~{PCIX0Reset} (io), AH14 PCIX0Par64 (io), AH15 PCIX0AD53 (io), AH16 ~{PCIX0BE4} (io), AH18 PCIX0AD49 (io), AH19 PCIX0AD34 (io), B13 PCIX1AD25 (io), B16 PCIX1AD11 (io), B17 PCIX1AD10 (io), C14 PCIX1AD17 (io), C15 PCIX1AD18 (io), C17 PCIX1AD08 (io), C18 PCIX1AD01 (io), D13 PCIX1AD24 (io), D15 PCIX1AD20 (io), D16 PCIX1AD09 (io), D18 PCIX1AD00 (io), E17 PCIX1AD12 (io), E21 PCIX1Clk (in), F16 PCIX1AD04 (io), F18 PCIX1AD02 (io), F19 PCIX1AD14 (io), F20 PCIX1AD06 (io), F21 PCIX1AD07 (io), G14 PCIX1CalG1 (in), G17 PCIX1AD22 (io), G19 PCIX1AD15 (io), G21 PCIX1Cap (in), H14 PCIX1CalR1 (in), H17 PCIX1AD21 (io), H18 PCIX1AD23 (io), H19 PCIX1AD13 (io), H20 PCIX1AD05 (io), K23 ~{PCIX1Ack64} (io), L19 PCIX1CalG0 (in), L21 PCIX1CalR0 (in), W11 ~{PCIX0PErr} (io), W12 ~{PCIX0TRDY} (io), W13 ~{PCIX0IRDY} (io), W16 PCIX0AD60 (io), W17 PCIX0AD42 (io), W18 PCIX0AD38 (io), Y10 ~{PCIX0DevSel} (io), Y14 PCIX0IDSel (in), Y15 PCIX0AD59 (io), Y17 PCIX0AD41 (io), Y19 PCIX0CalG1 (in)
part D pins: A20 ~{PCIX1Reset} (io), A21 PCIX1VC (out), A22 ~{PCIX1INTA} (out), A23 ~{PCIX1SErr} (io), A24 PCIX1Par64/PCIX2ECC7 (io), A25 PCIX1AD61 (io), A26 PCIX1AD60 (io), A27 PCIX1AD40 (io), AA1 PCIX2AD09 (io), AA2 ~{PCIX2BE1} (io), AA3 PCIX2AD12 (io), AA4 PCIX2AD13 (io), AA5 PCIX2AD23 (io), AA6 PCIX2ECC5 (io), AA7 PCIX2ECC2 (io), AB1 PCIX2AD04 (io), AB3 ~{PCIX2BE0} (io), AB4 PCIX2AD05 (io), AB6 PCIX2AD14 (io), AC1 PCIX2AD06 (io), AC2 PCIX2AD07 (io), AC3 PCIX2AD00 (io), AC4 PCIX2AD01 (io), AC5 PCIX2AD02 (io), AC6 PCIX2AD15 (io), AC7 PCIX2Par/PCIX2ECC0 (io), AD1 PCIX2AD03 (io), AE4 ~{PCIX2Req64}/PCIX2ECC6 (io), B12 PCIX1AD26 (io), B19 ~{PCIX1Gnt0}[GPIO22] (io), B21 ~{PCIX1Frame} (io), B23 PCIX1IDSel (in), B25 PCIX1AD56 (io), B26 PCIX1AD51 (io), C12 PCIX1AD27 (io), C19 ~{PCIX1Gnt1}[GPIO23] (io), C20 ~{PCIX1Req0}[GPIO24] (io), C21 ~{PCIX1Stop} (io), C22 ~{PCIX1Req1}[GPIO25] (io), C24 PCIX1AD57 (io), C25 PCIX1AD59 (io), C27 PCIX1AD42 (io), D14 ~{PCIX1BE2} (io), D17 ~{PCIX1BE1} (io), D19 ~{PCIX1DevSel} (io), D20 ~{PCIX1PErr} (io), D22 ~{PCIX1IRDY} (io), D24 PCIX1AD58 (io), D25 PCIX1AD62 (io), D26 ~{PCIX1BE4} (io), D27 PCIX1AD43 (io), D28 PCIX1AD35 (io), E14 ~{PCIX1BE3} (io), E15 PCIX1AD28 (io), E19 ~{PCIX1TRDY} (io), E25 PCIX1AD50 (io), E26 PCIX1AD52 (io), E28 PCIX1AD32 (io), F17 ~{PCIX1BE0} (io), F22 ~{PCIX1BE7} (io), F23 PCIX1ECC5 (io), F24 PCIX1AD63 (io), F25 ~{PCIX1}~{BE5} (io), F26 PCIX1AD44 (io), F27 PCIX1AD34 (io), F28 PCIX1AD33 (io), G23 PCIX1M66En (in), G25 ~{PCIX1BE6} (io), G26 PCIX1AD41 (io), G28 PCIX1AD36 (io), H15 PCIX1ECC4 (io), H16 PCIX1AD30 (io), H21 PCIX1ECC2 (io), H22 PCIX1ECC3 (io), H23 PCIX1AD55 (io), H24 ~{PCIX1Req64} (io), H25 PCIX1AD48 (io), J15 PCIX1AD31 (io), J17 PCIX1VRef0 (in), J21 PCIX1AD54 (io), J23 PCIX1AD53 (io), J25 PCIX1AD49 (io), K16 PCIX1AD29 (io), K17 PCIX1VRef1 (in), K19 PCIX1Par (io), K20 PCIX1AD47 (io), K21 PCIX1AD46 (io), K22 PCIX1AD45 (io), L23 PCIX1AD39 (io), M2 ~{PCIX2Stop} (io), M3 ~{PCIX2DevSel} (io), M19 PCIX1AD38 (io), M20 PCIX1AD37 (io), N1 PCIX2ECC4 (io), N2 ~{PCIX2TRDY} (io), N4 ~{PCIX2Req1}[GPIO29] (io), P1 ~{PCIX2Gnt0}[GPIO26] (io), P3 ~{PCIX2Gnt1}[GPIO27] (io), P4 ~{PCIX2IRDY} (io), R3 PCIX2Clk (in), R4 PCIX2VRef0 (in), T2 PCIX2AD27 (io), T4 PCIX2AD26 (io), T6 PCIX2M66En (in), T8 PCIX2Cap (in), T10 PCIX2IDSel (in), U2 ~{PCIX2BE3} (io), U3 PCIX2AD25 (io), U4 PCIX2AD28 (io), U5 ~{PCIX2Req0}[GPIO28] (io), U6 ~{PCIX2PErr} (io), U7 ~{PCIX2INTA} (out), U8 ~{PCIX2Frame} (io), U9 PCIX2ECC3 (io), U10 PCIX2VRef1 (in), V1 PCIX2AD24 (io), V3 ~{PCIX2BE2} (io), V4 PCIX2AD20 (io), V6 ~{PCIX2Reset} (io), V8 ~{PCIX2SErr} (io), V10 PCIX2VC (out), W1 PCIX2AD17 (io), W2 PCIX2AD16 (io), W3 PCIX2AD18 (io), W4 PCIX2AD19 (io), W5 PCIX2AD31 (io), W6 PCIX2AD30 (io), W7 PCIX2AD29 (io), W8 PCIX2CalG0 (in), W9 PCIX2CalR0 (in), W10 ~{PCIX2Ack64}/PCIX0ECC1 (io), Y1 PCIX2AD11 (io), Y3 PCIX2AD10 (io), Y4 PCIX2AD08 (io), Y6 PCIX2AD21 (io), Y8 PCIX2AD22 (io)
part E pins: A12 VDD (power), A17 VDD (power), A28 VDD (power), AB2 P2VDD (power), AB7 P0VDD (power), AB11 P0VDD (power), AB18 P0VDD (power), AB22 P0VDD (power), AB27 SVDD (power), AD24 VDD (power), AF1 AP0VDD (power), AF3 P2VDD (power), AF26 SVDD (power), AF28 A2VDD (power), AG7 P0VDD (power), AG11 P0VDD (power), AG14 P0VDD (power), AG15 P0VDD (power), AG18 P0VDD (power), AG22 P0VDD (power), AH1 VDD (power), AH12 VDD (power), AH17 VDD (power), AH28 VDD (power), B7 OVDD (power), B11 OVDD (power), B14 OVDD (power), B15 OVDD (power), B18 P1VDD (power), B22 P1VDD (power), C1 A1VDD (power), C3 OVDD (power), C26 P1VDD (power), C28 AP1VDD (power), D7 Reserved, E5 VDD (power), E9 VDD (power), E13 VDD (power), E16 VDD (power), E20 VDD (power), E24 VDD (power), F9 Reserved, F13 Reserved, G2 OVDD (power), G7 OVDD (power), G11 OVDD (power), G18 P1VDD (power), G22 P1VDD (power), G27 P1VDD (power), H8 Reserved, H9 Reserved, H13 Reserved, J5 VDD (power), J10 Reserved, J12 Reserved, J14 Reserved, K9 Reserved, K11 Reserved, K12 Reserved, K13 Reserved, K14 OVDD (power), K15 OVDD (power), L2 OVDD (power), L7 OVDD (power), L10 Reserved, L11 OVDD (power), L12 Reserved, L14 Reserved, L15 Reserved, L17 Reserved, L18 P1VDD (power), L22 P1VDD (power), L27 P1VDD (power), M9 Reserved, M10 Reserved, M11 Reserved, M12 PSRO (power), M13 Reserved, M14 Reserved, M15 Reserved, M16 Reserved, M17 PSRO (power), M18 Reserved, N10 Reserved, N12 Reserved, N17 Reserved, P2 P2VDD (power), P9 Reserved, P10 OVDD (power), P11 Reserved, P12 Reserved, P14 OVDD (power), P15 P1VDD (power), P17 Reserved, P18 Reserved, P19 SVDD (power), P27 SVDD (power), R1 AP2VDD (power), R2 P2VDD (power), R10 P2VDD (power), R11 Reserved, R12 Reserved, R14 P0VDD (power), R15 SVDD (power), R17 Reserved, R18 Reserved, R19 SVDD (power), R27 SVDD (power), T12 Reserved, T17 Reserved, U11 Reserved, U12 PSRO (power), U13 Reserved, U14 Reserved, U15 Reserved, U16 Reserved, U17 PSRO (power), U18 Reserved, V2 P2VDD (power), V7 P2VDD (power), V11 P2VDD (power), V12 Reserved, V14 Reserved, V15 Reserved, V17 Reserved, V18 SVDD (power), V22 SVDD (power), V27 SVDD (power), W14 P0VDD (power), W15 P0VDD (power)
part F pins: AB5 GND (power), AB9 GND (power), AB13 GND (power), AB16 GND (power), AB20 GND (power), AB24 GND (power), AC14 GND (power), AC15 GND (power), AD2 GND (power), AD5 VDD (power), AD7 GND (power), AD9 VDD (power), AD11 GND (power), AD13 VDD (power), AD16 VDD (power), AD18 GND (power), AD20 VDD (power), AD22 GND (power), AD27 GND (power), AF13 GND (power), AF16 GND (power), AG1 AP0GND (power), AG2 GND (power), AG5 GND (power), AG9 GND (power), AG20 GND (power), AG24 GND (power), AG27 GND (power), AG28 A2GND (power), B1 A1GND (power), B2 GND (power), B5 GND (power), B9 GND (power), B20 GND (power), B24 GND (power), B27 GND (power), B28 AP1GND (power), C13 GND (power), C16 GND (power), E2 GND (power), E7 GND (power), E11 GND (power), E18 GND (power), E22 GND (power), E27 GND (power), F14 GND (power), F15 GND (power), G5 GND (power), G9 GND (power), G13 GND (power), G16 GND (power), G20 GND (power), G24 GND (power), J2 GND (power), J7 GND (power), J9 VDD (power), J11 GND (power), J13 VDD (power), J16 VDD (power), J18 GND (power), J20 VDD (power), J22 GND (power), J24 VDD (power), J27 GND (power), L5 GND (power), L9 GND (power), L13 GND (power), L16 GND (power), L20 GND (power), L24 GND (power), M1 VDD (power), M28 VDD (power), N3 GND (power), N5 VDD (power), N7 GND (power), N9 VDD (power), N11 GND (power), N13 VDD (power), N14 GND (power), N15 GND (power), N16 VDD (power), N18 GND (power), N20 VDD (power), N22 GND (power), N24 VDD (power), N26 GND (power), P6 GND (power), P13 GND (power), P16 GND (power), P23 GND (power), R6 GND (power), R13 GND (power), R16 GND (power), R23 GND (power), T1 AP2GND (power), T3 GND (power), T5 VDD (power), T7 GND (power), T9 VDD (power), T11 GND (power), T13 VDD (power), T14 GND (power), T15 GND (power), T16 VDD (power), T18 GND (power), T20 VDD (power), T22 GND (power), T24 VDD (power), T26 GND (power), U1 VDD (power), U28 VDD (power), V5 GND (power), V9 GND (power), V13 GND (power), V16 GND (power), V20 GND (power), V24 GND (power), Y2 GND (power), Y5 VDD (power), Y7 GND (power), Y9 VDD (power), Y11 GND (power), Y13 VDD (power), Y16 VDD (power), Y18 GND (power), Y20 VDD (power), Y22 GND (power), Y24 VDD (power), Y27 GND (power)

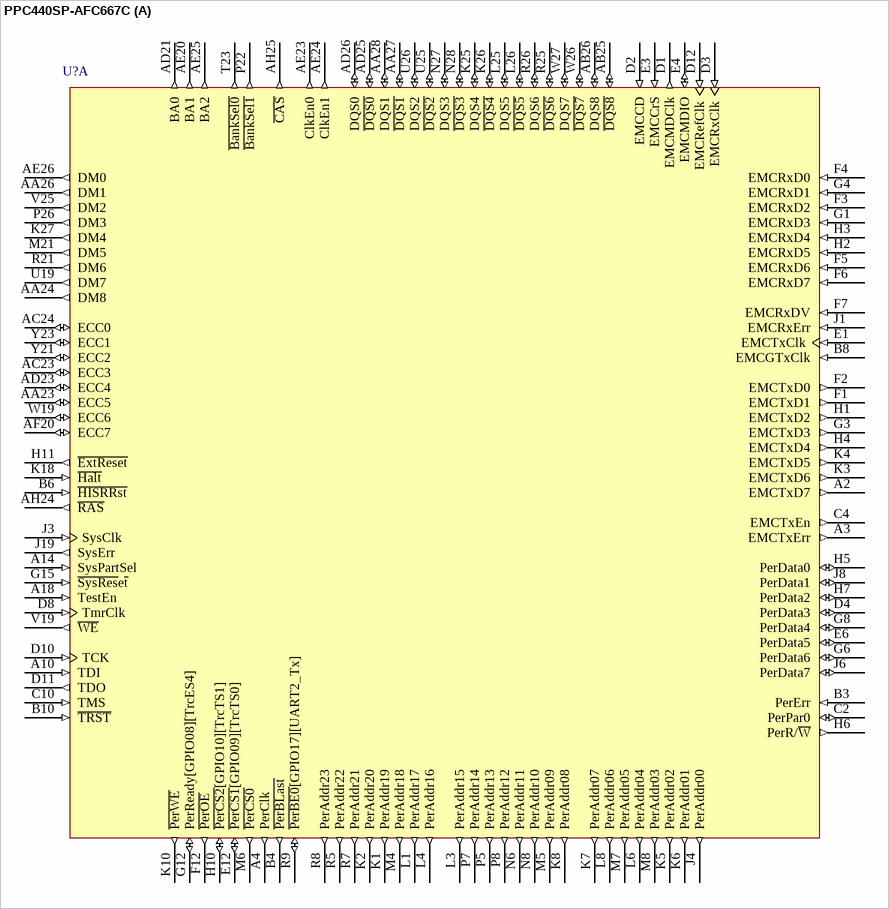
[diagram p370: symbol PPC440SP-AFC667C]

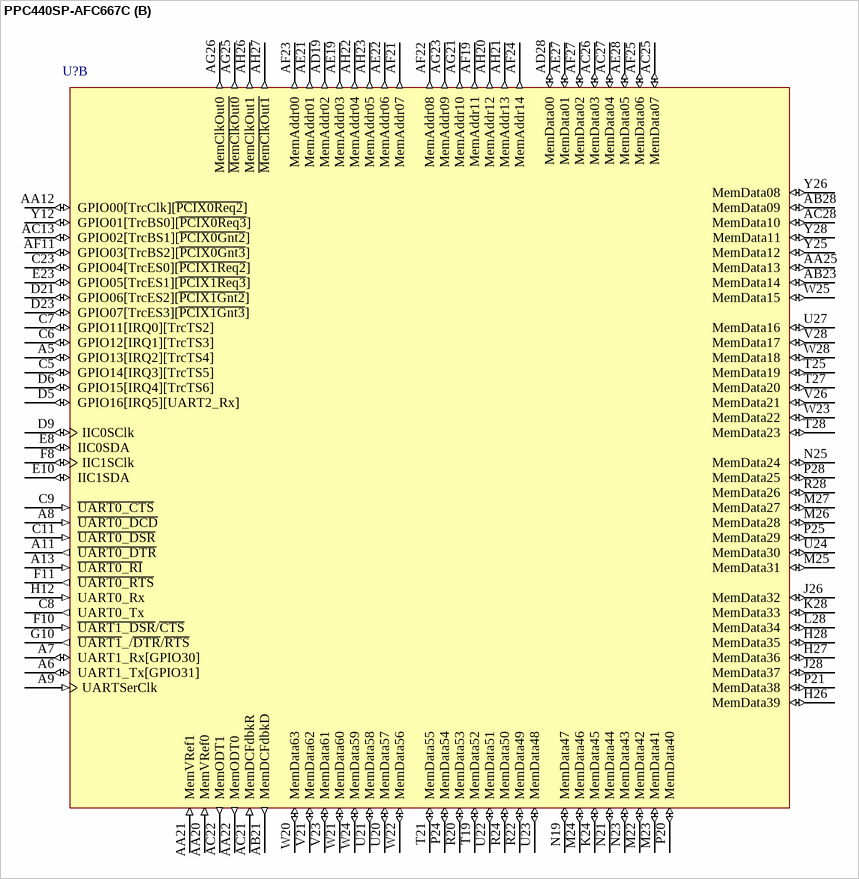
[diagram p371: symbol PPC440SP-AFC667C]

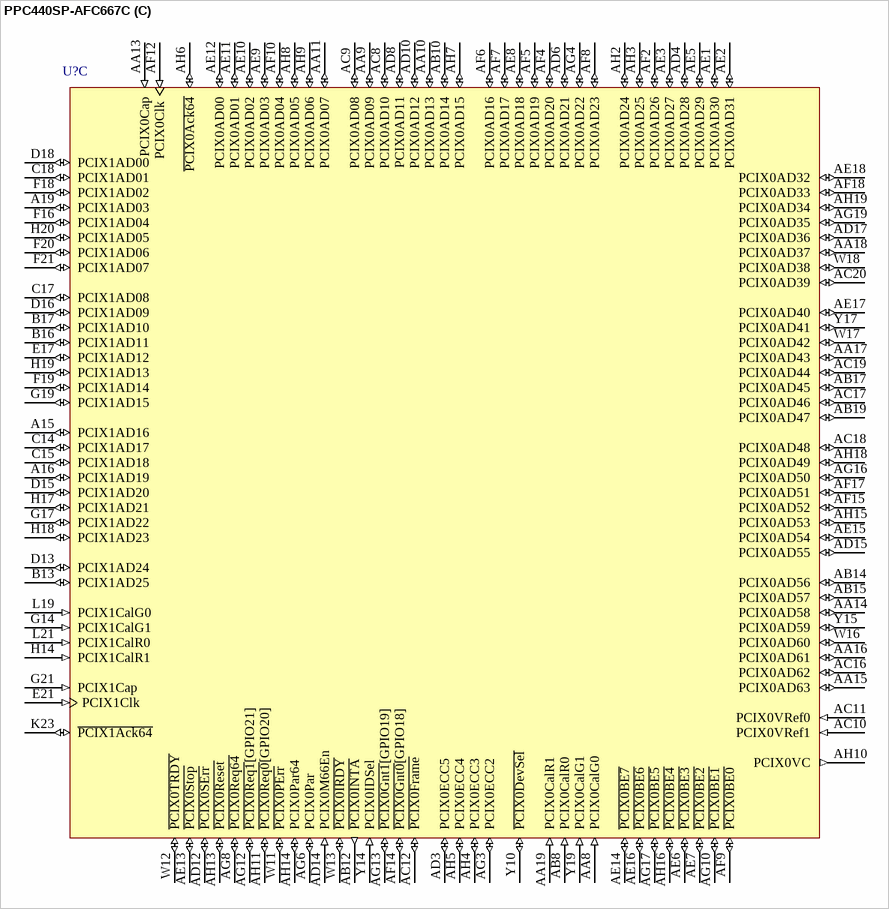
[diagram p372: symbol PPC440SP-AFC667C]

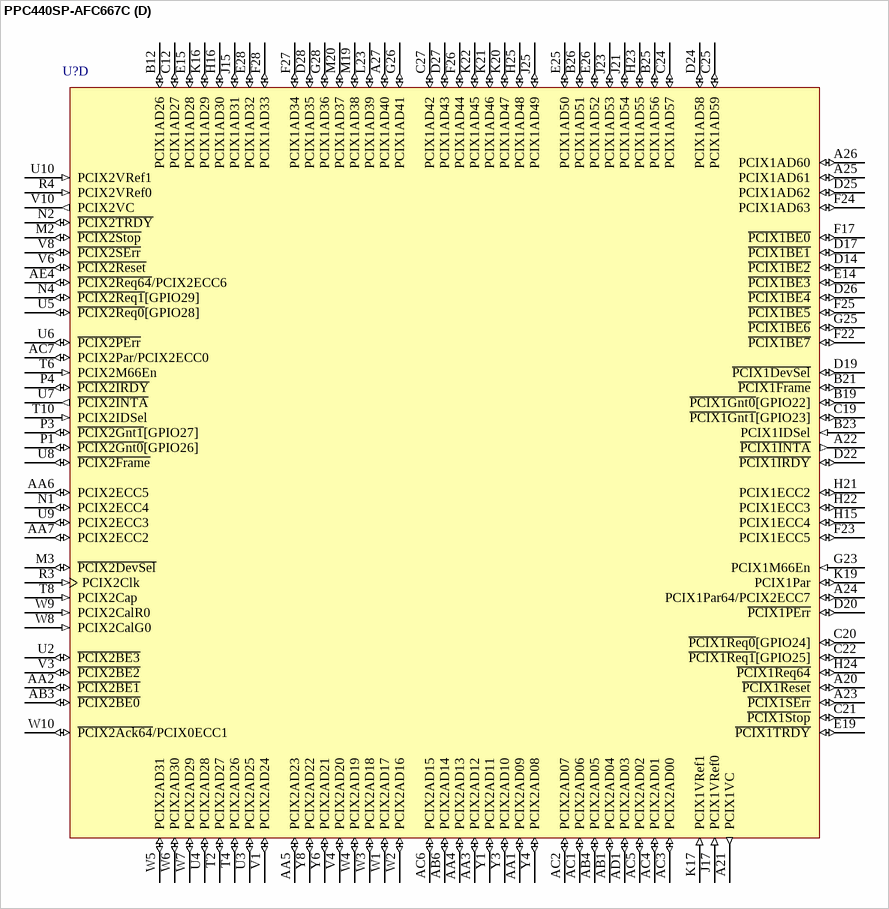
[diagram p373: symbol PPC440SP-AFC667C]

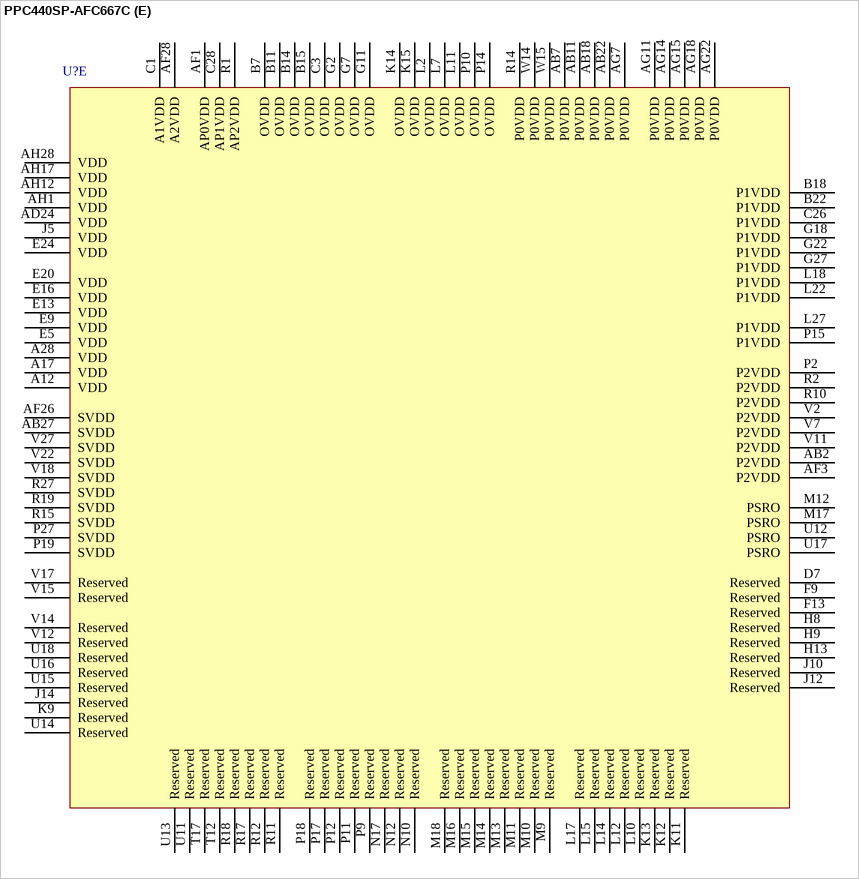
[diagram p374: symbol PPC440SP-AFC667C]

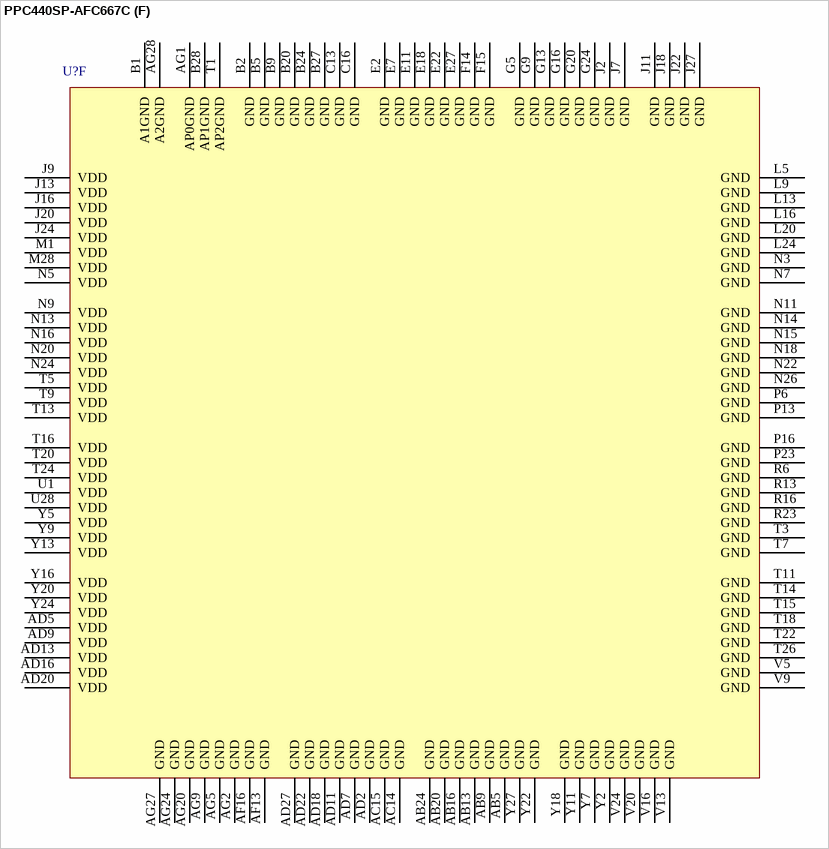
[diagram p375: symbol PPC440SP-AFC667C]

## PPC440SP-AFC667C
designator U?
PowerPC 440SP Embedded Processor, 667MHz, 29mm, 783 Ball FC-PBGA, rev C; Published: 2-Mar-2006; LatestRevisionDate: 13-Apr-2006; LatestRevisionNote: IPC-7351 Footprint Added.; DatasheetVersion: rev1.18, May-2006; PackageVersion: Nov-2005; PackageReference: FC-PBGA783; Publisher: Altium Limited; PackageDescription: 783-Ball Flip Chip Plastic Ball Grid Array; ComponentLink1Description: Manufacturer Link; ComponentLink1URL: http://www.amcc.com/; ComponentLink2Description: Datasheet; ComponentLink2URL: https://www.amcc.com/MyAMCC/retrieveDocument/PowerPC/440SP/PPC440SP_DS2013_v1_18.pdf
footprint FC-PBGA783 (BGA, 783-Leads, Body 29x29mm, Pitch 1mm)
3D model PPC440SP-FC-PBGA783 (783-Ball Flip Chip Plastic Ball Grid Array)
part A pins: A2 EMCTxD7 (out), A3 EMCTxErr (out), A4 PerClk (out), A10 TDI (in), A14 SysPartSel (in), A18 TestEn (in), AA23 ECC5 (io), AA24 DM8 (out), AA26 DM1 (out), AA27 ~{DQS1} (io), AA28 DQS1 (io), AB25 ~{DQS8} (io), AB26 DQS8 (io), AC23 ECC3 (io), AC24 ECC0 (io), AD21 BA0 (out), AD23 ECC4 (io), AD25 ~{DQS0} (io), AD26 DQS0 (io), AE20 BA1 (out), AE23 ClkEn0 (out), AE24 ClkEn1 (out), AE25 BA2 (out), AE26 DM0 (out), AF20 ECC7 (io), AH24 ~{RAS} (out), AH25 ~{CAS} (out), B3 PerErr (in), B4 ~{PerBLast} (out), B6 ~{HISRRst} (in), B8 EMCGTxClk (in), B10 ~{TRST} (in), C2 PerPar0 (io), C4 EMCTxEn (out), C10 TMS (in), D1 EMCMDClk (out), D2 EMCCD (in), D3 EMCRxClk (in), D4 PerData3 (io), D8 TmrClk (in), D10 TCK (in), D11 TDO (out), D12 EMCRefClk (in), E1 EMCTxClk (in), E3 EMCCrS (in), E4 EMCMDIO (io), E6 PerData5 (io), E12 ~{PerCS1}[GPIO09][TrcTS0] (io), F1 EMCTxD1 (out), F2 EMCTxD0 (out), F3 EMCRxD2 (in), F4 EMCRxD0 (in), F5 EMCRxD6 (in), F6 EMCRxD7 (in), F7 EMCRxDV (in), F12 ~{PerOE} (out), G1 EMCRxD3 (in), G3 EMCTxD3 (out), G4 EMCRxD1 (in), G6 PerData6 (io), G8 PerData4 (io), G12 PerReady[GPIO08][TrcES4] (io), G15 ~{SysRes}e~{t} (in), H1 EMCTxD2 (out), H2 EMCRxD5 (in), H3 EMCRxD4 (in), H4 EMCTxD4 (out), H5 PerData0 (io), H6 PerR/~{W} (out), H7 PerData2 (io), H10 ~{PerCS2}[GPIO10][TrcTS1] (io), H11 ~{ExtReset} (out), J1 EMCRxErr (in), J3 SysClk (in), J4 PerAddr00 (out), J6 PerData7 (io), J8 PerData1 (io), J19 SysErr (out), K1 PerAddr19 (out), K2 PerAddr20 (out), K3 EMCTxD6 (out), K4 EMCTxD5 (out), K5 PerAddr02 (out), K6 PerAddr01 (out), K7 PerAddr07 (out), K8 PerAddr08 (out), K10 ~{PerWE} (out), K18 ~{Halt} (in), K25 DQS4 (io), K26 ~{DQS4} (io), K27 DM4 (out), L1 PerAddr17 (out), L3 PerAddr15 (out), L4 PerAddr16 (out), L6 PerAddr04 (out), L8 PerAddr06 (out), L25 DQS5 (io), L26 ~{DQS5} (io), M4 PerAddr18 (out), M5 PerAddr09 (out), M6 ~{PerCS0} (out), M7 PerAddr05 (out), M8 PerAddr03 (out), M21 DM5 (out), N6 PerAddr11 (out), N8 PerAddr10 (out), N27 DQS3 (io), N28 ~{DQS3} (io), P5 PerAddr13 (out), P7 PerAddr14 (out), P8 PerAddr12 (out), P22 ~{BankSel1} (out), P26 DM3 (out), R5 PerAddr22 (out), R7 PerAddr21 (out), R8 PerAddr23 (out), R9 ~{PerBE0}[GPIO17][UART2_Tx] (io), R21 DM6 (out), R25 ~{DQS6} (io), R26 DQS6 (io), T23 ~{BankSel0} (out), U19 DM7 (out), U25 ~{DQS2} (io), U26 DQS2 (io), V19 ~{WE} (out), V25 DM2 (out), W19 ECC6 (io), W26 ~{DQS7} (io), W27 DQS7 (io), Y21 ECC2 (io), Y23 ECC1 (io)
part B pins: A5 GPIO13[IRQ2][TrcTS4] (io), A6 UART1_Tx[GPIO31] (io), A7 UART1_Rx[GPIO30] (io), A8 ~{UART0_DCD} (in), A9 UARTSerClk (in), A11 ~{UART0_DTR} (out), A13 ~{UART0_RI} (in), AA12 GPIO00[TrcClk][~{PCIX0Req2}] (io), AA20 MemVRef0 (in), AA21 MemVRef1 (in), AA22 MemODT0 (out), AA25 MemData13 (io), AB21 MemDCFdbkD (out), AB23 MemData14 (io), AB28 MemData09 (io), AC13 GPIO02[TrcBS1][~{PCIX0Gnt2}] (io), AC21 MemDCFdbkR (in), AC22 MemODT1 (out), AC25 MemData07 (io), AC26 MemData03 (io), AC27 MemData04 (io), AC28 MemData10 (io), AD19 MemAddr02 (out), AD28 MemData00 (io), AE19 MemAddr03 (out), AE21 MemAddr01 (out), AE22 MemAddr06 (out), AE27 MemData01 (io), AE28 MemData05 (io), AF11 GPIO03[TrcBS2][~{PCIX0Gnt3}] (io), AF19 MemAddr11 (out), AF21 MemAddr07 (out), AF22 MemAddr08 (out), AF23 MemAddr00 (out), AF24 MemAddr14 (out), AF25 MemData06 (io), AF27 MemData02 (io), AG21 MemAddr10 (out), AG23 MemAddr09 (out), AG25 ~{MemClkOut0} (out), AG26 MemClkOut0 (out), AH20 MemAddr12 (out), AH21 MemAddr13 (out), AH22 MemAddr04 (out), AH23 MemAddr05 (out), AH26 MemClkOut1 (out), AH27 ~{MemClkOut1} (out), C5 GPIO14[IRQ3][TrcTS5] (io), C6 GPIO12[IRQ1][TrcTS3] (io), C7 GPIO11[IRQ0][TrcTS2] (io), C8 UART0_Tx (out), C9 ~{UART0_CTS} (in), C11 ~{UART0_DSR} (in), C23 GPIO04[TrcES0][~{PCIX1Req2}] (io), D5 GPIO16[IRQ5][UART2_Rx] (io), D6 GPIO15[IRQ4][TrcTS6] (io), D9 IIC0SClk (io), D21 GPIO06[TrcES2][~{PCIX1Gnt2}] (io), D23 GPIO07[TrcES3][~{PCIX1Gnt3}] (io), E8 IIC0SDA (io), E10 IIC1SDA (io), E23 GPIO05[TrcES1][~{PCIX1Req3}] (io), F8 IIC1SClk (io), F10 ~{UART1_DSR}/~{CTS} (in), F11 ~{UART0_RTS} (out), G10 ~{UART1}_/~{DTR}/~{RTS} (out), H12 UART0_Rx (in), H26 MemData39 (io), H27 MemData36 (io), H28 MemData35 (io), J26 MemData32 (io), J28 MemData37 (io), K24 MemData45 (io), K28 MemData33 (io), L28 MemData34 (io), M22 MemData42 (io), M23 MemData41 (io), M24 MemData46 (io), M25 MemData31 (io), M26 MemData28 (io), M27 MemData27 (io), N19 MemData47 (io), N21 MemData44 (io), N23 MemData43 (io), N25 MemData24 (io), P20 MemData40 (io), P21 MemData38 (io), P24 MemData54 (io), P25 MemData29 (io), P28 MemData25 (io), R20 MemData53 (io), R22 MemData49 (io), R24 MemData50 (io), R28 MemData26 (io), T19 MemData52 (io), T21 MemData55 (io), T25 MemData19 (io), T27 MemData20 (io), T28 MemData23 (io), U20 MemData57 (io), U21 MemData58 (io), U22 MemData51 (io), U23 MemData48 (io), U24 MemData30 (io), U27 MemData16 (io), V21 MemData62 (io), V23 MemData61 (io), V26 MemData21 (io), V28 MemData17 (io), W20 MemData63 (io), W21 MemData60 (io), W22 MemData56 (io), W23 MemData22 (io), W24 MemData59 (io), W25 MemData15 (io), W28 MemData18 (io), Y12 GPIO01[TrcBS0][~{PCIX0Req3}] (io), Y25 MemData12 (io), Y26 MemData08 (io), Y28 MemData11 (io)
part C pins: A15 PCIX1AD16 (io), A16 PCIX1AD19 (io), A19 PCIX1AD03 (io), AA8 PCIX0CalG0 (in), AA9 PCIX0AD09 (io), AA10 PCIX0AD13 (io), AA11 PCIX0AD07 (io), AA13 PCIX0Cap (in), AA14 PCIX0AD58 (io), AA15 PCIX0AD63 (io), AA16 PCIX0AD61 (io), AA17 PCIX0AD43 (io), AA18 PCIX0AD37 (io), AA19 PCIX0CalR1 (in), AB8 PCIX0CalR0 (in), AB10 PCIX0AD14 (io), AB12 ~{PCIX0INTA} (out), AB14 PCIX0AD56 (io), AB15 PCIX0AD57 (io), AB17 PCIX0AD45 (io), AB19 PCIX0AD47 (io), AC8 PCIX0AD10 (io), AC9 PCIX0AD08 (io), AC10 PCIX0VRef1 (in), AC11 PCIX0VRef0 (in), AC12 ~{PCIX0Frame} (io), AC16 PCIX0AD62 (io), AC17 PCIX0AD46 (io), AC18 PCIX0AD48 (io), AC19 PCIX0AD44 (io), AC20 PCIX0AD39 (io), AD3 PCIX0ECC5 (io), AD4 PCIX0AD28 (io), AD6 PCIX0AD21 (io), AD8 PCIX0AD11 (io), AD10 PCIX0AD12 (io), AD12 ~{PCIX0SErr} (io), AD14 PCIX0M66En (in), AD15 PCIX0AD55 (io), AD17 PCIX0AD36 (io), AE1 PCIX0AD30 (io), AE2 PCIX0AD31 (io), AE3 PCIX0AD27 (io), AE5 PCIX0AD29 (io), AE6 ~{PCIX0BE3} (io), AE7 ~{PCIX0BE2} (io), AE8 PCIX0AD18 (io), AE9 PCIX0AD03 (io), AE10 PCIX0AD02 (io), AE11 PCIX0AD01 (io), AE12 PCIX0AD00 (io), AE13 ~{PCIX0Stop} (io), AE14 ~{PCIX0BE7} (io), AE15 PCIX0AD54 (io), AE16 ~{PCIX0BE6} (io), AE17 PCIX0AD40 (io), AE18 PCIX0AD32 (io), AF2 PCIX0AD26 (io), AF4 PCIX0AD20 (io), AF5 PCIX0AD19 (io), AF6 PCIX0AD16 (io), AF7 PCIX0AD17 (io), AF8 PCIX0AD23 (io), AF9 ~{PCIX0BE0} (io), AF10 PCIX0AD04 (io), AF12 PCIX0Clk (in), AF14 ~{PCIX0Gnt0}[GPIO18] (io), AF15 PCIX0AD52 (io), AF17 PCIX0AD51 (io), AF18 PCIX0AD33 (io), AG3 PCIX0ECC2 (io), AG4 PCIX0AD22 (io), AG6 PCIX0Par (io), AG8 ~{PCIX0Req64} (io), AG10 ~{PCIX0BE1} (io), AG12 ~{PCIX0Req1}[GPIO21] (io), AG13 ~{PCIX0Gnt1}[GPIO19] (io), AG16 PCIX0AD50 (io), AG17 ~{PCIX0BE5} (io), AG19 PCIX0AD35 (io), AH2 PCIX0AD24 (io), AH3 PCIX0AD25 (io), AH4 PCIX0ECC3 (io), AH5 PCIX0ECC4 (io), AH6 ~{PCIX0Ack64} (io), AH7 PCIX0AD15 (io), AH8 PCIX0AD05 (io), AH9 PCIX0AD06 (io), AH10 PCIX0VC (out), AH11 ~{PCIX0Req0}[GPIO20] (io), AH13 ~{PCIX0Reset} (io), AH14 PCIX0Par64 (io), AH15 PCIX0AD53 (io), AH16 ~{PCIX0BE4} (io), AH18 PCIX0AD49 (io), AH19 PCIX0AD34 (io), B13 PCIX1AD25 (io), B16 PCIX1AD11 (io), B17 PCIX1AD10 (io), C14 PCIX1AD17 (io), C15 PCIX1AD18 (io), C17 PCIX1AD08 (io), C18 PCIX1AD01 (io), D13 PCIX1AD24 (io), D15 PCIX1AD20 (io), D16 PCIX1AD09 (io), D18 PCIX1AD00 (io), E17 PCIX1AD12 (io), E21 PCIX1Clk (in), F16 PCIX1AD04 (io), F18 PCIX1AD02 (io), F19 PCIX1AD14 (io), F20 PCIX1AD06 (io), F21 PCIX1AD07 (io), G14 PCIX1CalG1 (in), G17 PCIX1AD22 (io), G19 PCIX1AD15 (io), G21 PCIX1Cap (in), H14 PCIX1CalR1 (in), H17 PCIX1AD21 (io), H18 PCIX1AD23 (io), H19 PCIX1AD13 (io), H20 PCIX1AD05 (io), K23 ~{PCIX1Ack64} (io), L19 PCIX1CalG0 (in), L21 PCIX1CalR0 (in), W11 ~{PCIX0PErr} (io), W12 ~{PCIX0TRDY} (io), W13 ~{PCIX0IRDY} (io), W16 PCIX0AD60 (io), W17 PCIX0AD42 (io), W18 PCIX0AD38 (io), Y10 ~{PCIX0DevSel} (io), Y14 PCIX0IDSel (in), Y15 PCIX0AD59 (io), Y17 PCIX0AD41 (io), Y19 PCIX0CalG1 (in)
part D pins: A20 ~{PCIX1Reset} (io), A21 PCIX1VC (out), A22 ~{PCIX1INTA} (out), A23 ~{PCIX1SErr} (io), A24 PCIX1Par64/PCIX2ECC7 (io), A25 PCIX1AD61 (io), A26 PCIX1AD60 (io), A27 PCIX1AD40 (io), AA1 PCIX2AD09 (io), AA2 ~{PCIX2BE1} (io), AA3 PCIX2AD12 (io), AA4 PCIX2AD13 (io), AA5 PCIX2AD23 (io), AA6 PCIX2ECC5 (io), AA7 PCIX2ECC2 (io), AB1 PCIX2AD04 (io), AB3 ~{PCIX2BE0} (io), AB4 PCIX2AD05 (io), AB6 PCIX2AD14 (io), AC1 PCIX2AD06 (io), AC2 PCIX2AD07 (io), AC3 PCIX2AD00 (io), AC4 PCIX2AD01 (io), AC5 PCIX2AD02 (io), AC6 PCIX2AD15 (io), AC7 PCIX2Par/PCIX2ECC0 (io), AD1 PCIX2AD03 (io), AE4 ~{PCIX2Req64}/PCIX2ECC6 (io), B12 PCIX1AD26 (io), B19 ~{PCIX1Gnt0}[GPIO22] (io), B21 ~{PCIX1Frame} (io), B23 PCIX1IDSel (in), B25 PCIX1AD56 (io), B26 PCIX1AD51 (io), C12 PCIX1AD27 (io), C19 ~{PCIX1Gnt1}[GPIO23] (io), C20 ~{PCIX1Req0}[GPIO24] (io), C21 ~{PCIX1Stop} (io), C22 ~{PCIX1Req1}[GPIO25] (io), C24 PCIX1AD57 (io), C25 PCIX1AD59 (io), C27 PCIX1AD42 (io), D14 ~{PCIX1BE2} (io), D17 ~{PCIX1BE1} (io), D19 ~{PCIX1DevSel} (io), D20 ~{PCIX1PErr} (io), D22 ~{PCIX1IRDY} (io), D24 PCIX1AD58 (io), D25 PCIX1AD62 (io), D26 ~{PCIX1BE4} (io), D27 PCIX1AD43 (io), D28 PCIX1AD35 (io), E14 ~{PCIX1BE3} (io), E15 PCIX1AD28 (io), E19 ~{PCIX1TRDY} (io), E25 PCIX1AD50 (io), E26 PCIX1AD52 (io), E28 PCIX1AD32 (io), F17 ~{PCIX1BE0} (io), F22 ~{PCIX1BE7} (io), F23 PCIX1ECC5 (io), F24 PCIX1AD63 (io), F25 ~{PCIX1}~{BE5} (io), F26 PCIX1AD44 (io), F27 PCIX1AD34 (io), F28 PCIX1AD33 (io), G23 PCIX1M66En (in), G25 ~{PCIX1BE6} (io), G26 PCIX1AD41 (io), G28 PCIX1AD36 (io), H15 PCIX1ECC4 (io), H16 PCIX1AD30 (io), H21 PCIX1ECC2 (io), H22 PCIX1ECC3 (io), H23 PCIX1AD55 (io), H24 ~{PCIX1Req64} (io), H25 PCIX1AD48 (io), J15 PCIX1AD31 (io), J17 PCIX1VRef0 (in), J21 PCIX1AD54 (io), J23 PCIX1AD53 (io), J25 PCIX1AD49 (io), K16 PCIX1AD29 (io), K17 PCIX1VRef1 (in), K19 PCIX1Par (io), K20 PCIX1AD47 (io), K21 PCIX1AD46 (io), K22 PCIX1AD45 (io), L23 PCIX1AD39 (io), M2 ~{PCIX2Stop} (io), M3 ~{PCIX2DevSel} (io), M19 PCIX1AD38 (io), M20 PCIX1AD37 (io), N1 PCIX2ECC4 (io), N2 ~{PCIX2TRDY} (io), N4 ~{PCIX2Req1}[GPIO29] (io), P1 ~{PCIX2Gnt0}[GPIO26] (io), P3 ~{PCIX2Gnt1}[GPIO27] (io), P4 ~{PCIX2IRDY} (io), R3 PCIX2Clk (in), R4 PCIX2VRef0 (in), T2 PCIX2AD27 (io), T4 PCIX2AD26 (io), T6 PCIX2M66En (in), T8 PCIX2Cap (in), T10 PCIX2IDSel (in), U2 ~{PCIX2BE3} (io), U3 PCIX2AD25 (io), U4 PCIX2AD28 (io), U5 ~{PCIX2Req0}[GPIO28] (io), U6 ~{PCIX2PErr} (io), U7 ~{PCIX2INTA} (out), U8 ~{PCIX2Frame} (io), U9 PCIX2ECC3 (io), U10 PCIX2VRef1 (in), V1 PCIX2AD24 (io), V3 ~{PCIX2BE2} (io), V4 PCIX2AD20 (io), V6 ~{PCIX2Reset} (io), V8 ~{PCIX2SErr} (io), V10 PCIX2VC (out), W1 PCIX2AD17 (io), W2 PCIX2AD16 (io), W3 PCIX2AD18 (io), W4 PCIX2AD19 (io), W5 PCIX2AD31 (io), W6 PCIX2AD30 (io), W7 PCIX2AD29 (io), W8 PCIX2CalG0 (in), W9 PCIX2CalR0 (in), W10 ~{PCIX2Ack64}/PCIX0ECC1 (io), Y1 PCIX2AD11 (io), Y3 PCIX2AD10 (io), Y4 PCIX2AD08 (io), Y6 PCIX2AD21 (io), Y8 PCIX2AD22 (io)
part E pins: A12 VDD (power), A17 VDD (power), A28 VDD (power), AB2 P2VDD (power), AB7 P0VDD (power), AB11 P0VDD (power), AB18 P0VDD (power), AB22 P0VDD (power), AB27 SVDD (power), AD24 VDD (power), AF1 AP0VDD (power), AF3 P2VDD (power), AF26 SVDD (power), AF28 A2VDD (power), AG7 P0VDD (power), AG11 P0VDD (power), AG14 P0VDD (power), AG15 P0VDD (power), AG18 P0VDD (power), AG22 P0VDD (power), AH1 VDD (power), AH12 VDD (power), AH17 VDD (power), AH28 VDD (power), B7 OVDD (power), B11 OVDD (power), B14 OVDD (power), B15 OVDD (power), B18 P1VDD (power), B22 P1VDD (power), C1 A1VDD (power), C3 OVDD (power), C26 P1VDD (power), C28 AP1VDD (power), D7 Reserved, E5 VDD (power), E9 VDD (power), E13 VDD (power), E16 VDD (power), E20 VDD (power), E24 VDD (power), F9 Reserved, F13 Reserved, G2 OVDD (power), G7 OVDD (power), G11 OVDD (power), G18 P1VDD (power), G22 P1VDD (power), G27 P1VDD (power), H8 Reserved, H9 Reserved, H13 Reserved, J5 VDD (power), J10 Reserved, J12 Reserved, J14 Reserved, K9 Reserved, K11 Reserved, K12 Reserved, K13 Reserved, K14 OVDD (power), K15 OVDD (power), L2 OVDD (power), L7 OVDD (power), L10 Reserved, L11 OVDD (power), L12 Reserved, L14 Reserved, L15 Reserved, L17 Reserved, L18 P1VDD (power), L22 P1VDD (power), L27 P1VDD (power), M9 Reserved, M10 Reserved, M11 Reserved, M12 PSRO (power), M13 Reserved, M14 Reserved, M15 Reserved, M16 Reserved, M17 PSRO (power), M18 Reserved, N10 Reserved, N12 Reserved, N17 Reserved, P2 P2VDD (power), P9 Reserved, P10 OVDD (power), P11 Reserved, P12 Reserved, P14 OVDD (power), P15 P1VDD (power), P17 Reserved, P18 Reserved, P19 SVDD (power), P27 SVDD (power), R1 AP2VDD (power), R2 P2VDD (power), R10 P2VDD (power), R11 Reserved, R12 Reserved, R14 P0VDD (power), R15 SVDD (power), R17 Reserved, R18 Reserved, R19 SVDD (power), R27 SVDD (power), T12 Reserved, T17 Reserved, U11 Reserved, U12 PSRO (power), U13 Reserved, U14 Reserved, U15 Reserved, U16 Reserved, U17 PSRO (power), U18 Reserved, V2 P2VDD (power), V7 P2VDD (power), V11 P2VDD (power), V12 Reserved, V14 Reserved, V15 Reserved, V17 Reserved, V18 SVDD (power), V22 SVDD (power), V27 SVDD (power), W14 P0VDD (power), W15 P0VDD (power)
part F pins: AB5 GND (power), AB9 GND (power), AB13 GND (power), AB16 GND (power), AB20 GND (power), AB24 GND (power), AC14 GND (power), AC15 GND (power), AD2 GND (power), AD5 VDD (power), AD7 GND (power), AD9 VDD (power), AD11 GND (power), AD13 VDD (power), AD16 VDD (power), AD18 GND (power), AD20 VDD (power), AD22 GND (power), AD27 GND (power), AF13 GND (power), AF16 GND (power), AG1 AP0GND (power), AG2 GND (power), AG5 GND (power), AG9 GND (power), AG20 GND (power), AG24 GND (power), AG27 GND (power), AG28 A2GND (power), B1 A1GND (power), B2 GND (power), B5 GND (power), B9 GND (power), B20 GND (power), B24 GND (power), B27 GND (power), B28 AP1GND (power), C13 GND (power), C16 GND (power), E2 GND (power), E7 GND (power), E11 GND (power), E18 GND (power), E22 GND (power), E27 GND (power), F14 GND (power), F15 GND (power), G5 GND (power), G9 GND (power), G13 GND (power), G16 GND (power), G20 GND (power), G24 GND (power), J2 GND (power), J7 GND (power), J9 VDD (power), J11 GND (power), J13 VDD (power), J16 VDD (power), J18 GND (power), J20 VDD (power), J22 GND (power), J24 VDD (power), J27 GND (power), L5 GND (power), L9 GND (power), L13 GND (power), L16 GND (power), L20 GND (power), L24 GND (power), M1 VDD (power), M28 VDD (power), N3 GND (power), N5 VDD (power), N7 GND (power), N9 VDD (power), N11 GND (power), N13 VDD (power), N14 GND (power), N15 GND (power), N16 VDD (power), N18 GND (power), N20 VDD (power), N22 GND (power), N24 VDD (power), N26 GND (power), P6 GND (power), P13 GND (power), P16 GND (power), P23 GND (power), R6 GND (power), R13 GND (power), R16 GND (power), R23 GND (power), T1 AP2GND (power), T3 GND (power), T5 VDD (power), T7 GND (power), T9 VDD (power), T11 GND (power), T13 VDD (power), T14 GND (power), T15 GND (power), T16 VDD (power), T18 GND (power), T20 VDD (power), T22 GND (power), T24 VDD (power), T26 GND (power), U1 VDD (power), U28 VDD (power), V5 GND (power), V9 GND (power), V13 GND (power), V16 GND (power), V20 GND (power), V24 GND (power), Y2 GND (power), Y5 VDD (power), Y7 GND (power), Y9 VDD (power), Y11 GND (power), Y13 VDD (power), Y16 VDD (power), Y18 GND (power), Y20 VDD (power), Y22 GND (power), Y24 VDD (power), Y27 GND (power)

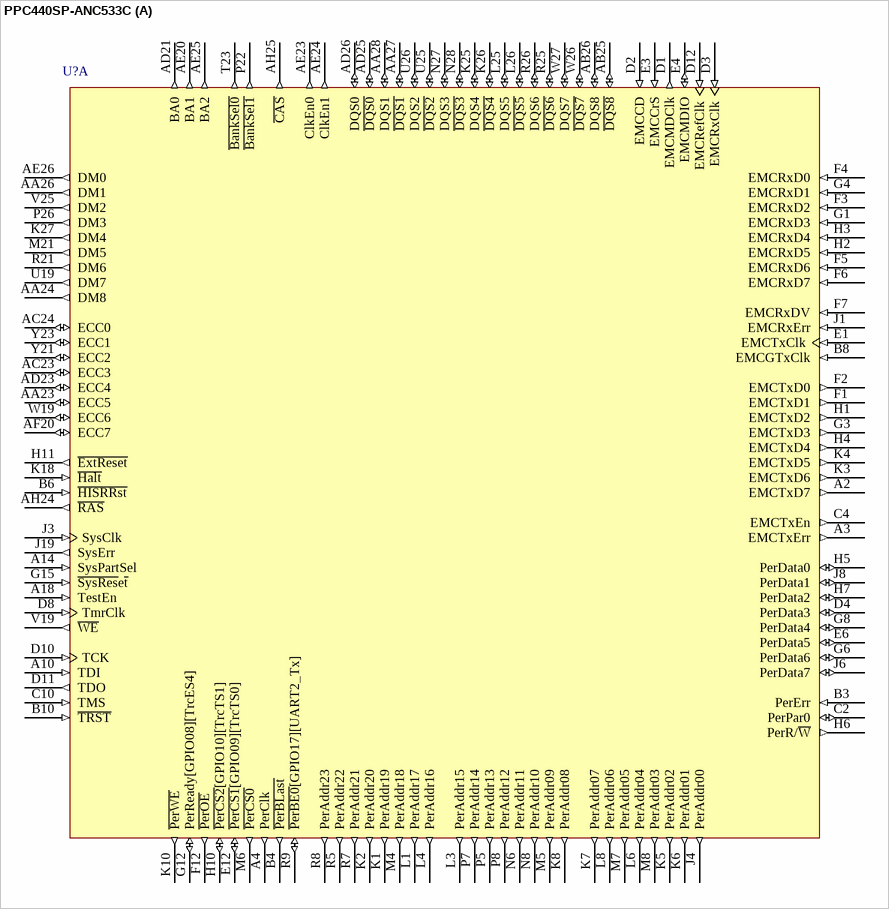
[diagram p376: symbol PPC440SP-ANC533C]

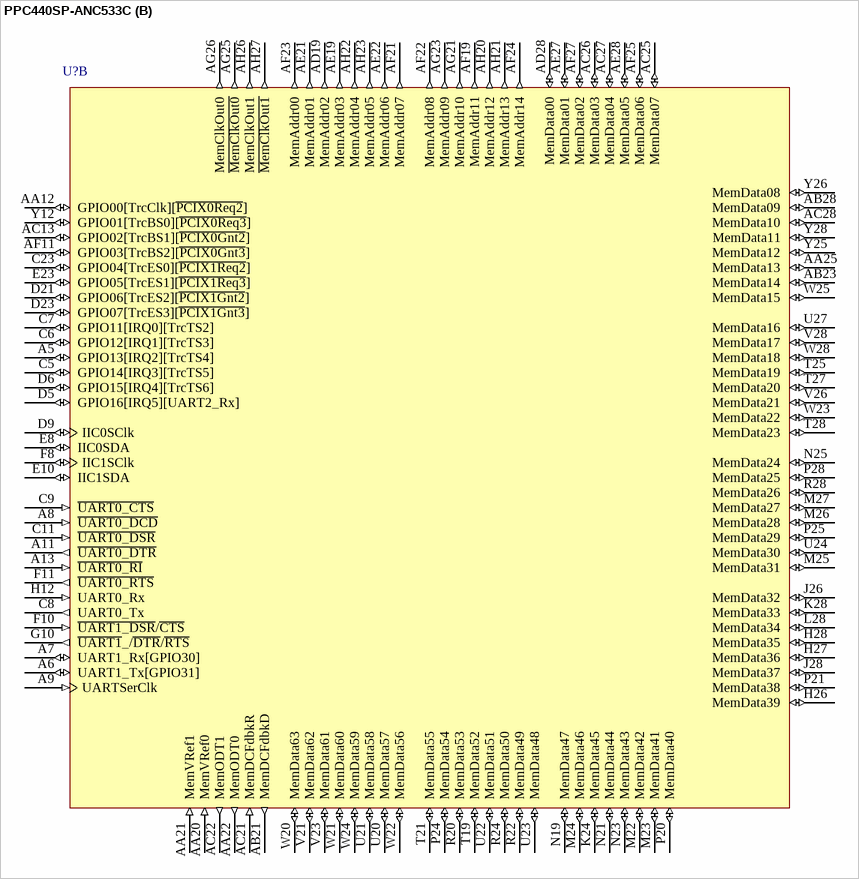
[diagram p377: symbol PPC440SP-ANC533C]

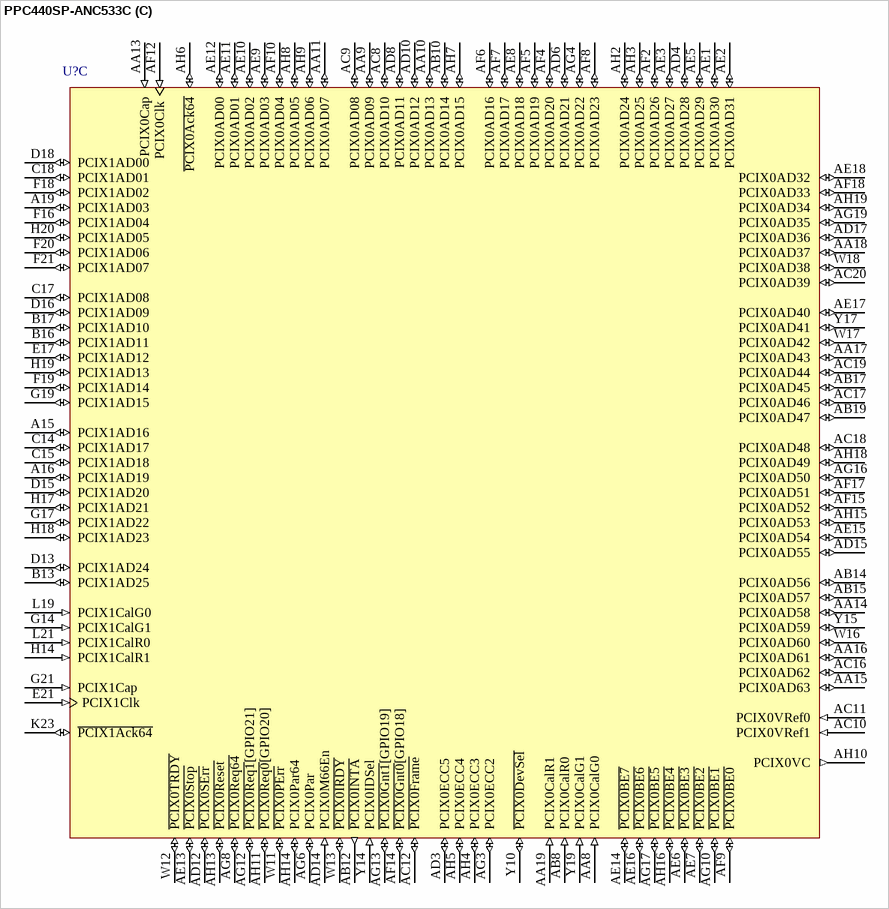
[diagram p378: symbol PPC440SP-ANC533C]

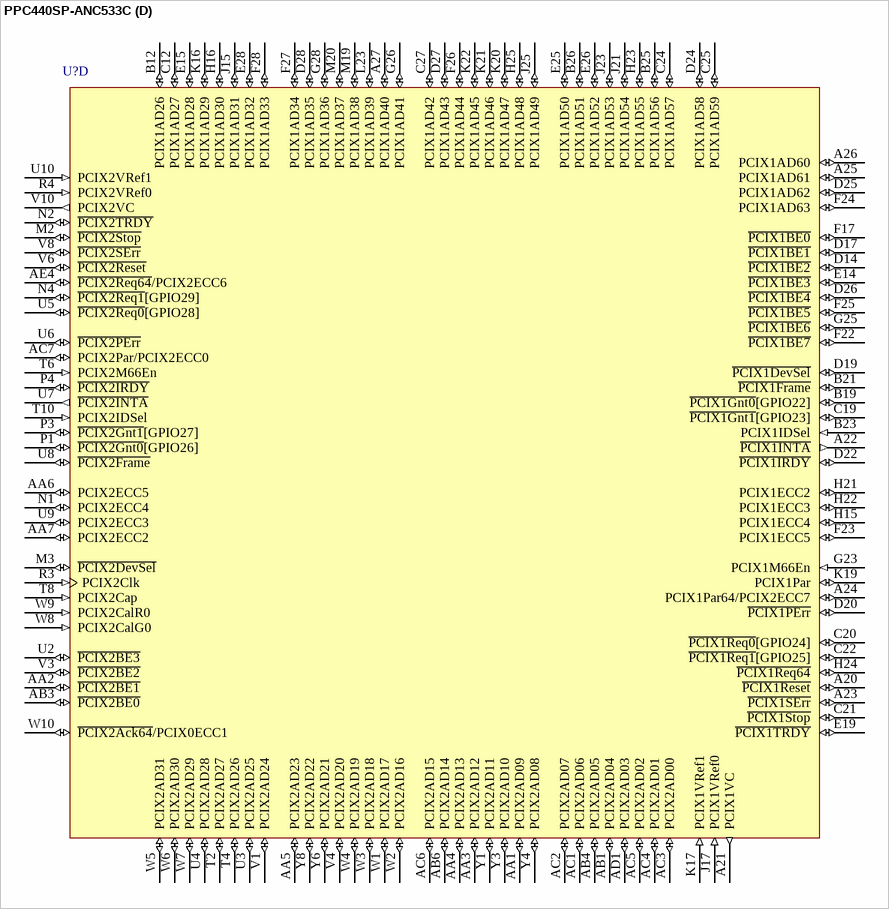
[diagram p379: symbol PPC440SP-ANC533C]

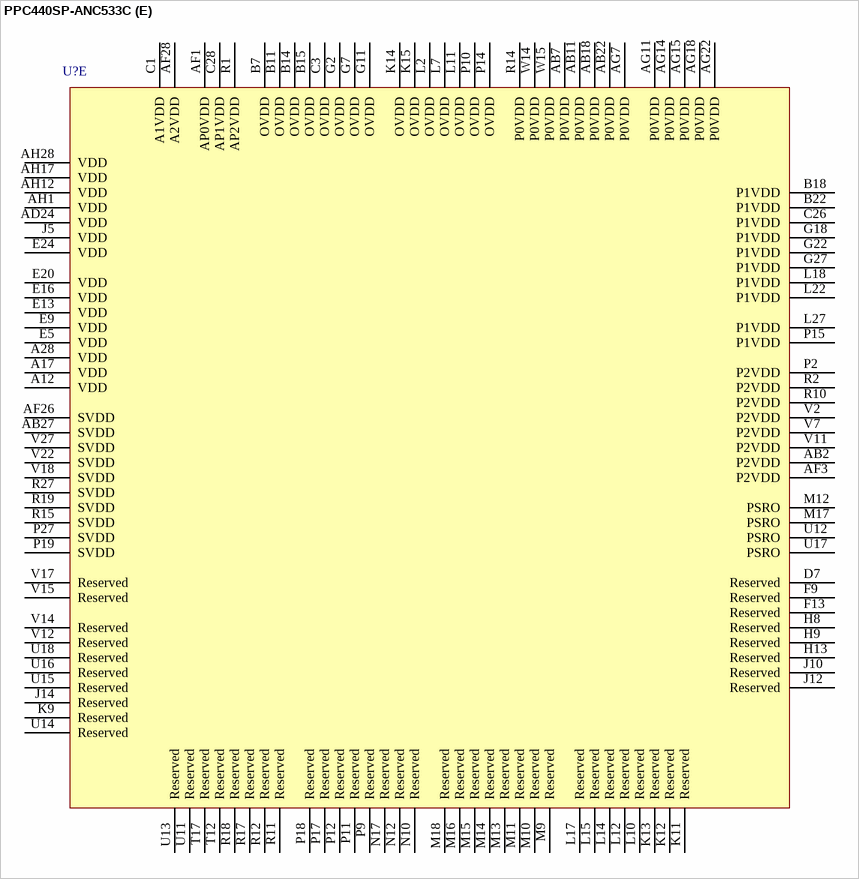
[diagram p380: symbol PPC440SP-ANC533C]

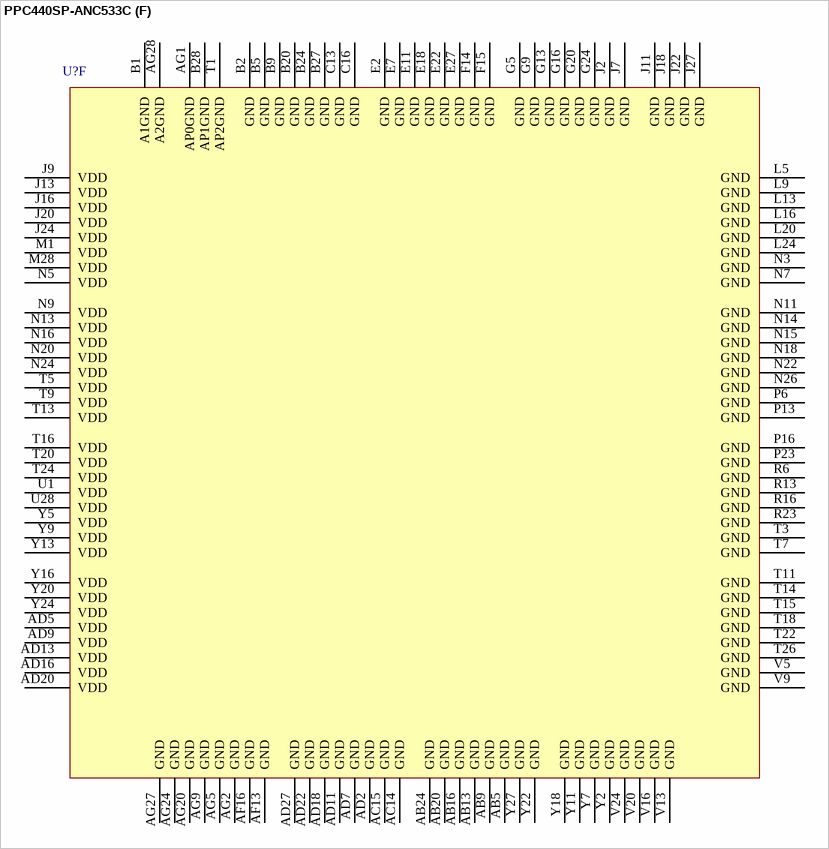
[diagram p381: symbol PPC440SP-ANC533C]